# Altium schematic symbol library MCU_Module.SchLib: 52 symbols (part 1 of 3)
Pins are listed as number, name and electrical type; pins without a type are passive.

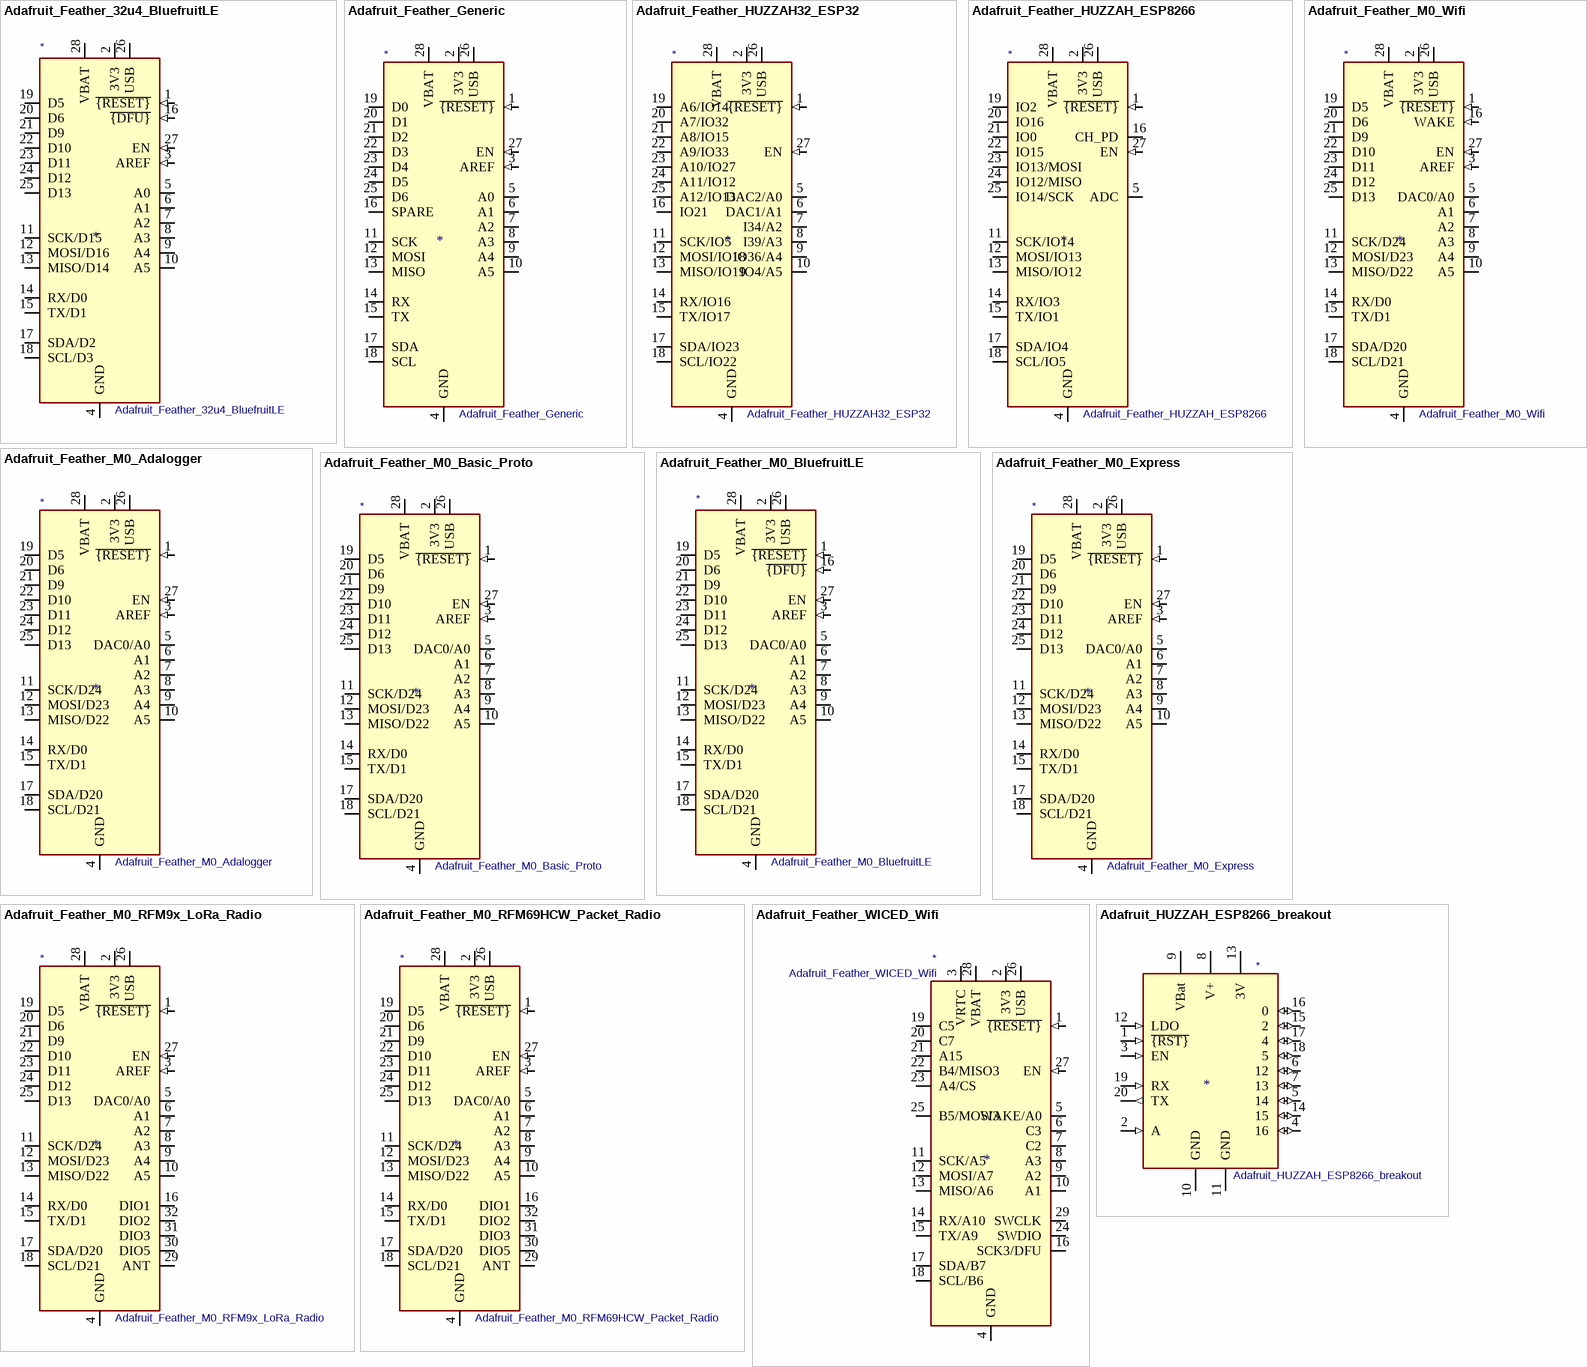
[diagram p0: symbols Adafruit_Feather_32u4_BluefruitLE to Adafruit_HUZZAH_ESP8266_breakout]

## Adafruit_Feather_32u4_BluefruitLE
designator *  value Adafruit_Feather_32u4_BluefruitLE
ki_keywords: Adafruit feather microcontroller module USB AVR ATmega32U4  Bluetooth BLE; ki_description: Microcontroller module with ATmega32u4 MCU and bluetooth; ki_fp_filters: Adafruit*Feather*; Footprint: Module:Adafruit_Feather; Supplier: https://cdn-learn.adafruit.com/downloads/pdf/adafruit-feather-32u4-bluefruit-le.pdf
footprint Adafruit_Feather
pins: 1 ~{{RESET}} (in), 2 3V3 (power), 3 AREF (in), 4 GND (power), 5 A0 (io), 6 A1 (io), 7 A2 (io), 8 A3 (io), 9 A4 (io), 10 A5 (io), 11 SCK/D15 (io), 12 MOSI/D16 (io), 13 MISO/D14 (io), 14 RX/D0 (io), 15 TX/D1 (io), 16 ~{{DFU}} (in), 17 SDA/D2 (io), 18 SCL/D3 (io), 19 D5 (io), 20 D6 (io), 21 D9 (io), 22 D10 (io), 23 D11 (io), 24 D12 (io), 25 D13 (io), 26 USB (power), 27 EN (in), 28 VBAT (power)

## Adafruit_Feather_Generic
designator *  value Adafruit_Feather_Generic
ki_keywords: Adafruit feather microcontroller module; ki_description: Microcontroller module in various flavor, generic symbol; ki_fp_filters: Adafruit*Feather*; Footprint: Module:Adafruit_Feather; Supplier: https://cdn-learn.adafruit.com/downloads/pdf/adafruit-feather.pdf
footprint Adafruit_Feather
pins: 1 ~{{RESET}} (in), 2 3V3 (power), 3 AREF (in), 4 GND (power), 5 A0 (io), 6 A1 (io), 7 A2 (io), 8 A3 (io), 9 A4 (io), 10 A5 (io), 11 SCK (io), 12 MOSI (io), 13 MISO (io), 14 RX (io), 15 TX (io), 16 SPARE (io), 17 SDA (io), 18 SCL (io), 19 D0 (io), 20 D1 (io), 21 D2 (io), 22 D3 (io), 23 D4 (io), 24 D5 (io), 25 D6 (io), 26 USB (power), 27 EN (in), 28 VBAT (power)

## Adafruit_Feather_HUZZAH32_ESP32
designator *  value Adafruit_Feather_HUZZAH32_ESP32
ki_keywords: Adafruit feather microcontroller module USB; ki_description: Microcontroller module with ESP32 MCU; ki_fp_filters: Adafruit*Feather*; Footprint: Module:Adafruit_Feather; Supplier: https://cdn-learn.adafruit.com/downloads/pdf/adafruit-huzzah32-esp32-feather.pdf
footprint Adafruit_Feather
pins: 1 ~{{RESET}} (in), 2 3V3 (power), 3 NC (in) hidden, 4 GND (power), 5 DAC2/A0 (io), 6 DAC1/A1 (io), 7 I34/A2 (io), 8 I39/A3 (io), 9 IO36/A4 (io), 10 IO4/A5 (io), 11 SCK/IO5 (io), 12 MOSI/IO18 (io), 13 MISO/IO19 (io), 14 RX/IO16 (io), 15 TX/IO17 (io), 16 IO21 (io), 17 SDA/IO23 (io), 18 SCL/IO22 (io), 19 A6/IO14 (io), 20 A7/IO32 (io), 21 A8/IO15 (io), 22 A9/IO33 (io), 23 A10/IO27 (io), 24 A11/IO12 (io), 25 A12/IO13 (io), 26 USB (power), 27 EN (in), 28 VBAT (power)

## Adafruit_Feather_HUZZAH_ESP8266
designator *  value Adafruit_Feather_HUZZAH_ESP8266
ki_keywords: Adafruit feather microcontroller module USB; ki_description: Microcontroller module with ESP8266 MCU; ki_fp_filters: Adafruit*Feather*; Footprint: Module:Adafruit_Feather; Supplier: https://cdn-learn.adafruit.com/downloads/pdf/adafruit-feather-huzzah-esp8266.pdf
footprint Adafruit_Feather
pins: 1 ~{{RESET}} (in), 2 3V3 (power), 3 NC (in) hidden, 4 GND (power), 5 ADC (io), 6 NC (in) hidden, 7 NC (in) hidden, 8 NC (in) hidden, 9 NC (in) hidden, 10 NC (in) hidden, 11 SCK/IO14 (io), 12 MOSI/IO13 (io), 13 MISO/IO12 (io), 14 RX/IO3 (io), 15 TX/IO1 (io), 16 CH_PD (io), 17 SDA/IO4 (io), 18 SCL/IO5 (io), 19 IO2 (io), 20 IO16 (io), 21 IO0 (io), 22 IO15 (io), 23 IO13/MOSI (io), 24 IO12/MISO (io), 25 IO14/SCK (io), 26 USB (power), 27 EN (in), 28 VBAT (power)

## Adafruit_Feather_M0_Adalogger
designator *  value Adafruit_Feather_M0_Adalogger
ki_keywords: Adafruit feather microcontroller module USB SD; ki_description: Microcontroller module with SAMD21 Cortex-M0 MCU and SD card reader; ki_fp_filters: Adafruit*Feather*; Footprint: Module:Adafruit_Feather; Supplier: https://cdn-learn.adafruit.com/downloads/pdf/adafruit-feather-m0-adalogger.pdf
footprint Adafruit_Feather
pins: 1 ~{{RESET}} (in), 2 3V3 (power), 3 AREF (in), 4 GND (power), 5 DAC0/A0 (io), 6 A1 (io), 7 A2 (io), 8 A3 (io), 9 A4 (io), 10 A5 (io), 11 SCK/D24 (io), 12 MOSI/D23 (io), 13 MISO/D22 (io), 14 RX/D0 (io), 15 TX/D1 (io), 16 GND hidden, 17 SDA/D20 (io), 18 SCL/D21 (io), 19 D5 (io), 20 D6 (io), 21 D9 (io), 22 D10 (io), 23 D11 (io), 24 D12 (io), 25 D13 (io), 26 USB (power), 27 EN (in), 28 VBAT (power)

## Adafruit_Feather_M0_Basic_Proto
designator *  value Adafruit_Feather_M0_Basic_Proto
ki_keywords: Adafruit feather microcontroller module USB M0 SAMD21; ki_description: Microcontroller module with SAMD21 Cortex-M0 MCU; ki_fp_filters: Adafruit*Feather*; Footprint: Module:Adafruit_Feather; Supplier: https://cdn-learn.adafruit.com/downloads/pdf/adafruit-feather-m0-basic-proto.pdf
footprint Adafruit_Feather
pins: 1 ~{{RESET}} (in), 2 3V3 (power), 3 AREF (in), 4 GND (power), 5 DAC0/A0 (io), 6 A1 (io), 7 A2 (io), 8 A3 (io), 9 A4 (io), 10 A5 (io), 11 SCK/D24 (io), 12 MOSI/D23 (io), 13 MISO/D22 (io), 14 RX/D0 (io), 15 TX/D1 (io), 16 GND hidden, 17 SDA/D20 (io), 18 SCL/D21 (io), 19 D5 (io), 20 D6 (io), 21 D9 (io), 22 D10 (io), 23 D11 (io), 24 D12 (io), 25 D13 (io), 26 USB (power), 27 EN (in), 28 VBAT (power)

## Adafruit_Feather_M0_BluefruitLE
designator *  value Adafruit_Feather_M0_BluefruitLE
ki_keywords: Adafruit feather microcontroller module USB M0 SAMD21 Bluetooth BLE; ki_description: Microcontroller module with SAMD21 Cortex-M0 MCU and bluetooth; ki_fp_filters: Adafruit*Feather*; Footprint: Module:Adafruit_Feather; Supplier: https://cdn-learn.adafruit.com/downloads/pdf/adafruit-feather-m0-bluefruit-le.pdf
footprint Adafruit_Feather
pins: 1 ~{{RESET}} (in), 2 3V3 (power), 3 AREF (in), 4 GND (power), 5 DAC0/A0 (io), 6 A1 (io), 7 A2 (io), 8 A3 (io), 9 A4 (io), 10 A5 (io), 11 SCK/D24 (io), 12 MOSI/D23 (io), 13 MISO/D22 (io), 14 RX/D0 (io), 15 TX/D1 (io), 16 ~{{DFU}} (in), 17 SDA/D20 (io), 18 SCL/D21 (io), 19 D5 (io), 20 D6 (io), 21 D9 (io), 22 D10 (io), 23 D11 (io), 24 D12 (io), 25 D13 (io), 26 USB (power), 27 EN (in), 28 VBAT (power)

## Adafruit_Feather_M0_Express
designator *  value Adafruit_Feather_M0_Express
ki_keywords: Adafruit feather microcontroller module USB SPI Flash CircuitPython; ki_description: Microcontroller module with SAMD21 Cortex-M0 MCU and SPI Flash; ki_fp_filters: Adafruit*Feather*; Footprint: Module:Adafruit_Feather; Supplier: https://cdn-learn.adafruit.com/downloads/pdf/adafruit-feather-m0-express-designed-for-circuit-python-circuitpython.pdf
footprint Adafruit_Feather
pins: 1 ~{{RESET}} (in), 2 3V3 (power), 3 AREF (in), 4 GND (power), 5 DAC0/A0 (io), 6 A1 (io), 7 A2 (io), 8 A3 (io), 9 A4 (io), 10 A5 (io), 11 SCK/D24 (io), 12 MOSI/D23 (io), 13 MISO/D22 (io), 14 RX/D0 (io), 15 TX/D1 (io), 16 GND hidden, 17 SDA/D20 (io), 18 SCL/D21 (io), 19 D5 (io), 20 D6 (io), 21 D9 (io), 22 D10 (io), 23 D11 (io), 24 D12 (io), 25 D13 (io), 26 USB (power), 27 EN (in), 28 VBAT (power)

## Adafruit_Feather_M0_RFM9x_LoRa_Radio
designator *  value Adafruit_Feather_M0_RFM9x_LoRa_Radio
ki_keywords: Adafruit feather microcontroller module USB M0 SAMD21 LoRa Radio; ki_description: Microcontroller module with SAMD21 Cortex-M0 MCU and RFM9x Radio; ki_fp_filters: Adafruit*Feather*; Footprint: Module:Adafruit_Feather_M0_RFM; Supplier: https://cdn-learn.adafruit.com/downloads/pdf/adafruit-feather-m0-radio-with-lora-radio-module.pdf
footprint Adafruit_Feather_M0_RFM
pins: 1 ~{{RESET}} (in), 2 3V3 (power), 3 AREF (in), 4 GND (power), 5 DAC0/A0 (io), 6 A1 (io), 7 A2 (io), 8 A3 (io), 9 A4 (io), 10 A5 (io), 11 SCK/D24 (io), 12 MOSI/D23 (io), 13 MISO/D22 (io), 14 RX/D0 (io), 15 TX/D1 (io), 16 DIO1 (io), 17 SDA/D20 (io), 18 SCL/D21 (io), 19 D5 (io), 20 D6 (io), 21 D9 (io), 22 D10 (io), 23 D11 (io), 24 D12 (io), 25 D13 (io), 26 USB (power), 27 EN (in), 28 VBAT (power), 29 ANT (io), 30 DIO5 (io), 31 DIO3 (io), 32 DIO2 (io)

## Adafruit_Feather_M0_RFM69HCW_Packet_Radio
designator *  value Adafruit_Feather_M0_RFM69HCW_Packet_Radio
ki_keywords: Adafruit feather microcontroller module USB M0 SAMD21 Radio; ki_description: Microcontroller module with SAMD21 Cortex-M0 MCU and RFM69HCW Radio; ki_fp_filters: Adafruit*Feather*; Footprint: Module:Adafruit_Feather_M0_RFM; Supplier: https://cdn-learn.adafruit.com/downloads/pdf/adafruit-feather-m0-radio-with-rfm69-packet-radio.pdf
footprint Adafruit_Feather_M0_RFM
pins: 1 ~{{RESET}} (in), 2 3V3 (power), 3 AREF (in), 4 GND (power), 5 DAC0/A0 (io), 6 A1 (io), 7 A2 (io), 8 A3 (io), 9 A4 (io), 10 A5 (io), 11 SCK/D24 (io), 12 MOSI/D23 (io), 13 MISO/D22 (io), 14 RX/D0 (io), 15 TX/D1 (io), 16 DIO1 (io), 17 SDA/D20 (io), 18 SCL/D21 (io), 19 D5 (io), 20 D6 (io), 21 D9 (io), 22 D10 (io), 23 D11 (io), 24 D12 (io), 25 D13 (io), 26 USB (power), 27 EN (in), 28 VBAT (power), 29 ANT (io), 30 DIO5 (io), 31 DIO3 (io), 32 DIO2 (io)

## Adafruit_Feather_M0_Wifi
designator *  value Adafruit_Feather_M0_Wifi
ki_keywords: Adafruit feather microcontroller module USB M0 SAMD21 Wifi ATWINC1500; ki_description: Microcontroller module with SAMD21 Cortex-M0 MCU and ATWINC1500 Wifi; ki_fp_filters: Adafruit*Feather*; Footprint: Module:Adafruit_Feather_M0_Wifi; Supplier: https://cdn-learn.adafruit.com/downloads/pdf/adafruit-feather-m0-wifi-atwinc1500.pdf
footprint Adafruit_Feather_M0_Wifi
pins: 1 ~{{RESET}} (in), 2 3V3 (power), 3 AREF (in), 4 GND (power), 5 DAC0/A0 (io), 6 A1 (io), 7 A2 (io), 8 A3 (io), 9 A4 (io), 10 A5 (io), 11 SCK/D24 (io), 12 MOSI/D23 (io), 13 MISO/D22 (io), 14 RX/D0 (io), 15 TX/D1 (io), 16 WAKE (in), 17 SDA/D20 (io), 18 SCL/D21 (io), 19 D5 (io), 20 D6 (io), 21 D9 (io), 22 D10 (io), 23 D11 (io), 24 D12 (io), 25 D13 (io), 26 USB (power), 27 EN (in), 28 VBAT (power)

## Adafruit_Feather_WICED_Wifi
designator *  value Adafruit_Feather_WICED_Wifi
ki_keywords: Adafruit feather microcontroller module USB M3 STM32F205 Wifi; ki_description: Microcontroller module with STM32F205 Cortex-M3 MCU and BCM43362 Wifi; ki_fp_filters: Adafruit*Feather*; Footprint: Module:Adafruit_Feather_WICED; Supplier: https://cdn-learn.adafruit.com/downloads/pdf/introducing-the-adafruit-wiced-feather-wifi.pdf
footprint Adafruit_Feather_WICED
pins: 1 ~{{RESET}} (in), 2 3V3 (power), 3 VRTC (power), 4 GND (power), 5 WAKE/A0 (io), 6 C3 (io), 7 C2 (io), 8 A3 (io), 9 A2 (io), 10 A1 (io), 11 SCK/A5 (io), 12 MOSI/A7 (io), 13 MISO/A6 (io), 14 RX/A10 (io), 15 TX/A9 (io), 16 SCK3/DFU (io), 17 SDA/B7 (io), 18 SCL/B6 (io), 19 C5 (io), 20 C7 (io), 21 A15 (io), 22 B4/MISO3 (io), 23 A4/CS (io), 24 SWDIO (io), 25 B5/MOSI3 (io), 26 USB (power), 27 EN (in), 28 VBAT (power), 29 SWCLK (io)

## Adafruit_HUZZAH_ESP8266_breakout
designator *  value Adafruit_HUZZAH_ESP8266_breakout
ki_keywords: ESP8266 WiFi microcontroller; ki_description: 32-bit microcontroller module with WiFi; ki_fp_filters: Adafruit*HUZZAH*ESP8266*breakout* Adafruit*HUZZAH*ESP8266*breakout*WithMountingHoles*; Supplier: https://www.adafruit.com/product/2471
pins: 1 ~{{RST}} (in), 2 A (in), 3 EN (in), 4 16 (io), 5 14 (io), 6 12 (io), 7 13 (io), 8 V+ (power), 9 VBat (power), 10 GND (power), 11 GND (power), 12 LDO (in), 13 3V (power), 14 15 (io), 15 2 (io), 16 0 (io), 17 4 (io), 18 5 (io), 19 RX (in), 20 TX (out)

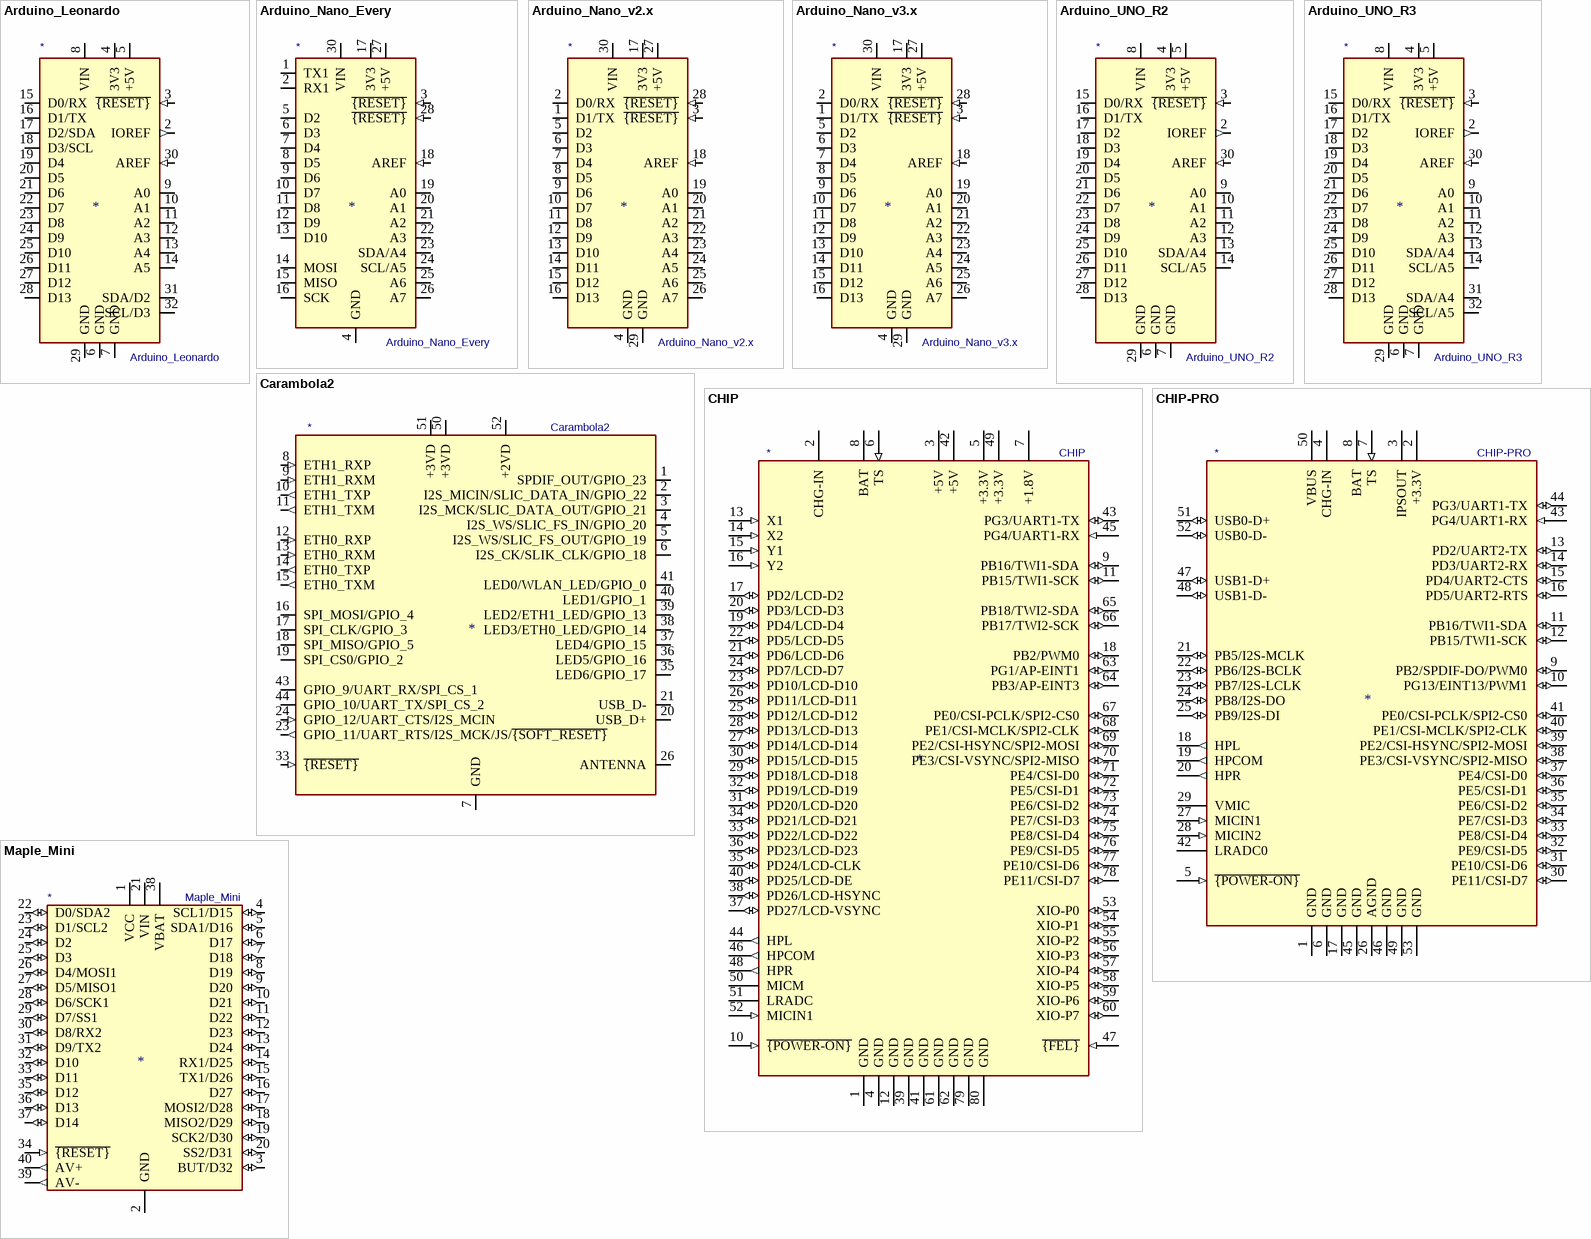
[diagram p1: symbols Arduino_Leonardo to Maple_Mini]

## Arduino_Leonardo
designator *  value Arduino_Leonardo
ki_keywords: Arduino LEONARDO Microcontroller Module Atmel AVR USB; ki_description: Arduino LEONARDO Microcontroller Module; ki_fp_filters: Arduino*UNO*R3*; Footprint: Module:Arduino_UNO_R3; Supplier: https://www.arduino.cc/en/Main/ArduinoBoardLeonardo
footprint Arduino_UNO_R3
pins: 1 NC (in) hidden, 2 IOREF (out), 3 ~{{RESET}} (in), 4 3V3 (power), 5 +5V (power), 6 GND (power), 7 GND (power), 8 VIN (power), 9 A0 (io), 10 A1 (io), 11 A2 (io), 12 A3 (io), 13 A4 (io), 14 A5 (io), 15 D0/RX (io), 16 D1/TX (io), 17 D2/SDA (io), 18 D3/SCL (io), 19 D4 (io), 20 D5 (io), 21 D6 (io), 22 D7 (io), 23 D8 (io), 24 D9 (io), 25 D10 (io), 26 D11 (io), 27 D12 (io), 28 D13 (io), 29 GND (power), 30 AREF (in), 31 SDA/D2 (io), 32 SCL/D3 (io)

## Arduino_Nano_Every
designator *  value Arduino_Nano_Every
ki_keywords: Arduino nano microcontroller module USB UPDI AATMega4809 AVR; ki_description: Arduino Nano Every; ki_fp_filters: Arduino*Nano*; Footprint: Module:Arduino_Nano; Supplier: https://content.arduino.cc/assets/NANOEveryV3.0_sch.pdf
footprint Arduino_Nano
pins: 1 TX1 (io), 2 RX1 (io), 3 ~{{RESET}} (in), 4 GND (power), 5 D2 (io), 6 D3 (io), 7 D4 (io), 8 D5 (io), 9 D6 (io), 10 D7 (io), 11 D8 (io), 12 D9 (io), 13 D10 (io), 14 MOSI (io), 15 MISO (io), 16 SCK (io), 17 3V3 (power), 18 AREF (in), 19 A0 (io), 20 A1 (io), 21 A2 (io), 22 A3 (io), 23 SDA/A4 (io), 24 SCL/A5 (io), 25 A6 (io), 26 A7 (io), 27 +5V (power), 28 ~{{RESET}} (in), 29 GND hidden, 30 VIN (power)

## Arduino_Nano_v2.x
designator *  value Arduino_Nano_v2.x
ki_keywords: Arduino nano microcontroller module USB; ki_description: Arduino Nano v2.x; ki_fp_filters: Arduino*Nano*; Footprint: Module:Arduino_Nano; Supplier: https://www.arduino.cc/en/uploads/Main/ArduinoNanoManual23.pdf
footprint Arduino_Nano
pins: 1 D1/TX (io), 2 D0/RX (io), 3 ~{{RESET}} (in), 4 GND (power), 5 D2 (io), 6 D3 (io), 7 D4 (io), 8 D5 (io), 9 D6 (io), 10 D7 (io), 11 D8 (io), 12 D9 (io), 13 D10 (io), 14 D11 (io), 15 D12 (io), 16 D13 (io), 17 3V3 (power), 18 AREF (in), 19 A0 (io), 20 A1 (io), 21 A2 (io), 22 A3 (io), 23 A4 (io), 24 A5 (io), 25 A6 (io), 26 A7 (io), 27 +5V (power), 28 ~{{RESET}} (in), 29 GND (power), 30 VIN (power)

## Arduino_Nano_v3.x
designator *  value Arduino_Nano_v3.x
ki_keywords: Arduino nano microcontroller module USB; ki_description: Arduino Nano v3.x; ki_fp_filters: Arduino*Nano*; Footprint: Module:Arduino_Nano; Supplier: http://www.mouser.com/pdfdocs/Gravitech_Arduino_Nano3_0.pdf
footprint Arduino_Nano
pins: 1 D1/TX (io), 2 D0/RX (io), 3 ~{{RESET}} (in), 4 GND (power), 5 D2 (io), 6 D3 (io), 7 D4 (io), 8 D5 (io), 9 D6 (io), 10 D7 (io), 11 D8 (io), 12 D9 (io), 13 D10 (io), 14 D11 (io), 15 D12 (io), 16 D13 (io), 17 3V3 (power), 18 AREF (in), 19 A0 (io), 20 A1 (io), 21 A2 (io), 22 A3 (io), 23 A4 (io), 24 A5 (io), 25 A6 (io), 26 A7 (io), 27 +5V (power), 28 ~{{RESET}} (in), 29 GND (power), 30 VIN (power)

## Arduino_UNO_R2
designator *  value Arduino_UNO_R2
ki_keywords: Arduino UNO R3 Microcontroller Module Atmel AVR USB; ki_description: Arduino UNO Microcontroller Module, release 2; ki_fp_filters: Arduino*UNO*R2*; Footprint: Module:Arduino_UNO_R2; Supplier: https://www.arduino.cc/en/Main/arduinoBoardUno
footprint Arduino_UNO_R2
pins: 1 NC (in) hidden, 2 IOREF (out), 3 ~{{RESET}} (in), 4 3V3 (power), 5 +5V (power), 6 GND (power), 7 GND (power), 8 VIN (power), 9 A0 (io), 10 A1 (io), 11 A2 (io), 12 A3 (io), 13 SDA/A4 (io), 14 SCL/A5 (io), 15 D0/RX (io), 16 D1/TX (io), 17 D2 (io), 18 D3 (io), 19 D4 (io), 20 D5 (io), 21 D6 (io), 22 D7 (io), 23 D8 (io), 24 D9 (io), 25 D10 (io), 26 D11 (io), 27 D12 (io), 28 D13 (io), 29 GND (power), 30 AREF (in)

## Arduino_UNO_R3
designator *  value Arduino_UNO_R3
ki_keywords: Arduino UNO R3 Microcontroller Module Atmel AVR USB; ki_description: Arduino UNO Microcontroller Module, release 3; ki_fp_filters: Arduino*UNO*R3*; Footprint: Module:Arduino_UNO_R3; Supplier: https://www.arduino.cc/en/Main/arduinoBoardUno
footprint Arduino_UNO_R3
pins: 1 NC (in) hidden, 2 IOREF (out), 3 ~{{RESET}} (in), 4 3V3 (power), 5 +5V (power), 6 GND (power), 7 GND (power), 8 VIN (power), 9 A0 (io), 10 A1 (io), 11 A2 (io), 12 A3 (io), 13 SDA/A4 (io), 14 SCL/A5 (io), 15 D0/RX (io), 16 D1/TX (io), 17 D2 (io), 18 D3 (io), 19 D4 (io), 20 D5 (io), 21 D6 (io), 22 D7 (io), 23 D8 (io), 24 D9 (io), 25 D10 (io), 26 D11 (io), 27 D12 (io), 28 D13 (io), 29 GND (power), 30 AREF (in), 31 SDA/A4 (io), 32 SCL/A5 (io)

## Carambola2
designator *  value Carambola2
ki_keywords: carambola, 8devices, openwrt, board, wlan; ki_description: Qualcomm AR9331, 16MB Flash, 64MB RAM, USB, Serial, Ethernet, GPIO, OpenWRT, industrial SoM computer; ki_fp_filters: Carambola2*; Footprint: Module:Carambola2; Supplier: https://www.8devices.com/media/products/carambola2/downloads/carambola2-datasheet.pdf
footprint Carambola2
pins: 1 SPDIF_OUT/GPIO_23 (io), 2 I2S_MICIN/SLIC_DATA_IN/GPIO_22 (io), 3 I2S_MCK/SLIC_DATA_OUT/GPIO_21 (io), 4 I2S_WS/SLIC_FS_IN/GPIO_20 (io), 5 I2S_WS/SLIC_FS_OUT/GPIO_19 (io), 6 I2S_CK/SLIK_CLK/GPIO_18 (io), 7 GND (power), 8 ETH1_RXP (in), 9 ETH1_RXM (in), 10 ETH1_TXP (out), 11 ETH1_TXM (out), 12 ETH0_RXP (in), 13 ETH0_RXM (in), 14 ETH0_TXP (out), 15 ETH0_TXM (out), 16 SPI_MOSI/GPIO_4 (io), 17 SPI_CLK/GPIO_3 (io), 18 SPI_MISO/GPIO_5 (io), 19 SPI_CS0/GPIO_2 (io), 20 USB_D+ (io), 21 USB_D- (io), 22 GND hidden, 23 GPIO_11/UART_RTS/I2S_MCK/JS/~{{SOFT_RESET}} (out), 24 GPIO_12/UART_CTS/I2S_MCIN (in), 25 GND hidden, 26 ANTENNA, 27 GND hidden, 28 GND hidden, 29 GND hidden, 30 GND hidden, 31 GND hidden, 32 GND hidden, 33 ~{{RESET}} (in), 34 GND hidden, 35 LED6/GPIO_17 (io), 36 LED5/GPIO_16 (io), 37 LED4/GPIO_15 (io), 38 LED3/ETH0_LED/GPIO_14 (io), 39 LED2/ETH1_LED/GPIO_13 (io), 40 LED1/GPIO_1 (io), 41 LED0/WLAN_LED/GPIO_0 (io), 42 GND hidden, 43 GPIO_9/UART_RX/SPI_CS_1 (io), 44 GPIO_10/UART_TX/SPI_CS_2 (io), 45 GND hidden, 46 GND hidden, 47 GND hidden, 48 GND hidden, 49 GND hidden, 50 +3VD (power), 51 +3VD (power), 52 +2VD (power)

## CHIP
designator *  value CHIP
ki_keywords: nextthingco chip module; ki_description: NextThingCo C.H.I.P. Module; ki_fp_filters: MODULE*NEXTTHINGCO*CHIP*; Footprint: Module:MODULE_NEXTTHINGCO_CHIP; Supplier: https://github.com/NextThingCo/CHIP-Hardware/tree/master/CHIP%5Bv1_0%5D
footprint MODULE_NEXTTHINGCO_CHIP
pins: 1 GND (power), 2 CHG-IN (power), 3 +5V (power), 4 GND (power), 5 +3.3V (power), 6 TS (in), 7 +1.8V (power), 8 BAT (power), 9 PB16/TWI1-SDA (io), 10 ~{{POWER-ON}} (in), 11 PB15/TWI1-SCK (io), 12 GND (power), 13 X1 (in), 14 X2 (in), 15 Y1 (in), 16 Y2 (in), 17 PD2/LCD-D2 (io), 18 PB2/PWM0 (io), 19 PD4/LCD-D4 (io), 20 PD3/LCD-D3 (io), 21 PD6/LCD-D6 (io), 22 PD5/LCD-D5 (io), 23 PD10/LCD-D10 (io), 24 PD7/LCD-D7 (io), 25 PD12/LCD-D12 (io), 26 PD11/LCD-D11 (io), 27 PD14/LCD-D14 (io), 28 PD13/LCD-D13 (io), 29 PD18/LCD-D18 (io), 30 PD15/LCD-D15 (io), 31 PD20/LCD-D20 (io), 32 PD19/LCD-D19 (io), 33 PD22/LCD-D22 (io), 34 PD21/LCD-D21 (io), 35 PD24/LCD-CLK (io), 36 PD23/LCD-D23 (io), 37 PD27/LCD-VSYNC (io), 38 PD26/LCD-HSYNC (io), 39 GND (power), 40 PD25/LCD-DE (io), 41 GND (power), 42 +5V (power), 43 PG3/UART1-TX (io), 44 HPL (out), 45 PG4/UART1-RX (in), 46 HPCOM (out), 47 ~{{FEL}} (in), 48 HPR (out), 49 +3.3V (power), 50 MICM (power), 51 LRADC (power), 52 MICIN1 (in), 53 XIO-P0 (io), 54 XIO-P1 (io), 55 XIO-P2 (io), 56 XIO-P3 (io), 57 XIO-P4 (io), 58 XIO-P5 (io), 59 XIO-P6 (io), 60 XIO-P7 (io), 61 GND (power), 62 GND (power), 63 PG1/AP-EINT1 (io), 64 PB3/AP-EINT3 (io), 65 PB18/TWI2-SDA (io), 66 PB17/TWI2-SCK (io), 67 PE0/CSI-PCLK/SPI2-CS0 (io), 68 PE1/CSI-MCLK/SPI2-CLK (io), 69 PE2/CSI-HSYNC/SPI2-MOSI (io), 70 PE3/CSI-VSYNC/SPI2-MISO (io), 71 PE4/CSI-D0 (io), 72 PE5/CSI-D1 (io), 73 PE6/CSI-D2 (io), 74 PE7/CSI-D3 (io), 75 PE8/CSI-D4 (io), 76 PE9/CSI-D5 (io), 77 PE10/CSI-D6 (io), 78 PE11/CSI-D7 (io), 79 GND (power), 80 GND (power)

## CHIP-PRO
designator *  value CHIP-PRO
ki_keywords: nextthingco chip pro module; ki_description: NextThingCo C.H.I.P. Pro Module; ki_fp_filters: MODULE*NEXTTHINGCO*CHIPPRO*; Footprint: Module:MODULE_NEXTTHINGCO_CHIPPRO; Supplier: https://github.com/NextThingCo/CHIP_Pro-Hardware/blob/master/Datasheets/CHIP_PRO_Datasheet_v1.0.pdf
footprint MODULE_NEXTTHINGCO_CHIPPRO
pins: 1 GND (power), 2 +3.3V (power), 3 IPSOUT (power), 4 CHG-IN (power), 5 ~{{POWER-ON}} (in), 6 GND (power), 7 TS (in), 8 BAT (power), 9 PB2/SPDIF-DO/PWM0 (io), 10 PG13/EINT13/PWM1 (io), 11 PB16/TWI1-SDA (io), 12 PB15/TWI1-SCK (io), 13 PD2/UART2-TX (io), 14 PD3/UART2-RX (io), 15 PD4/UART2-CTS (io), 16 PD5/UART2-RTS (io), 17 GND (power), 18 HPL (out), 19 HPCOM (out), 20 HPR (out), 21 PB5/I2S-MCLK (io), 22 PB6/I2S-BCLK (io), 23 PB7/I2S-LCLK (io), 24 PB8/I2S-DO (io), 25 PB9/I2S-DI (io), 26 AGND (power), 27 MICIN1 (in), 28 MICIN2 (in), 29 VMIC, 30 PE11/CSI-D7 (io), 31 PE10/CSI-D6 (io), 32 PE9/CSI-D5 (io), 33 PE8/CSI-D4 (io), 34 PE7/CSI-D3 (io), 35 PE6/CSI-D2 (io), 36 PE5/CSI-D1 (io), 37 PE4/CSI-D0 (io), 38 PE3/CSI-VSYNC/SPI2-MISO (io), 39 PE2/CSI-HSYNC/SPI2-MOSI (io), 40 PE1/CSI-MCLK/SPI2-CLK (io), 41 PE0/CSI-PCLK/SPI2-CS0 (io), 42 LRADC0 (power), 43 PG4/UART1-RX (in), 44 PG3/UART1-TX (io), 45 GND (power), 46 GND (power), 47 USB1-D+ (io), 48 USB1-D- (io), 49 GND (power), 50 VBUS (power), 51 USB0-D+ (io), 52 USB0-D- (io), 53 GND (power)

## Maple_Mini
designator *  value Maple_Mini
ki_keywords: Maple Mini Microcontroller Module LeafLabs STM32 STM32F103; ki_description: Maple Mini Microcontroller Module by LeafLabs; ki_fp_filters: Maple*Mini*; Footprint: Module:Maple_Mini; Supplier: http://docs.leaflabs.com/static.leaflabs.com/pub/leaflabs/maple-docs/0.0.12/hardware/maple-mini.html
footprint Maple_Mini
pins: 1 VCC (power), 2 GND (power), 3 BUT/D32 (io), 4 SCL1/D15 (io), 5 SDA1/D16 (io), 6 D17 (io), 7 D18 (io), 8 D19 (io), 9 D20 (io), 10 D21 (io), 11 D22 (io), 12 D23 (io), 13 D24 (io), 14 RX1/D25 (io), 15 TX1/D26 (io), 16 D27 (io), 17 MOSI2/D28 (io), 18 MISO2/D29 (io), 19 SCK2/D30 (io), 20 SS2/D31 (io), 21 VIN (power), 22 D0/SDA2 (io), 23 D1/SCL2 (io), 24 D2 (io), 25 D3 (io), 26 D4/MOSI1 (io), 27 D5/MISO1 (io), 28 D6/SCK1 (io), 29 D7/SS1 (io), 30 D8/RX2 (io), 31 D9/TX2 (io), 32 D10 (io), 33 D11 (io), 34 ~{{RESET}} (in), 35 D12 (io), 36 D13 (io), 37 D14 (io), 38 VBAT (power), 39 AV- (out), 40 AV+ (out)

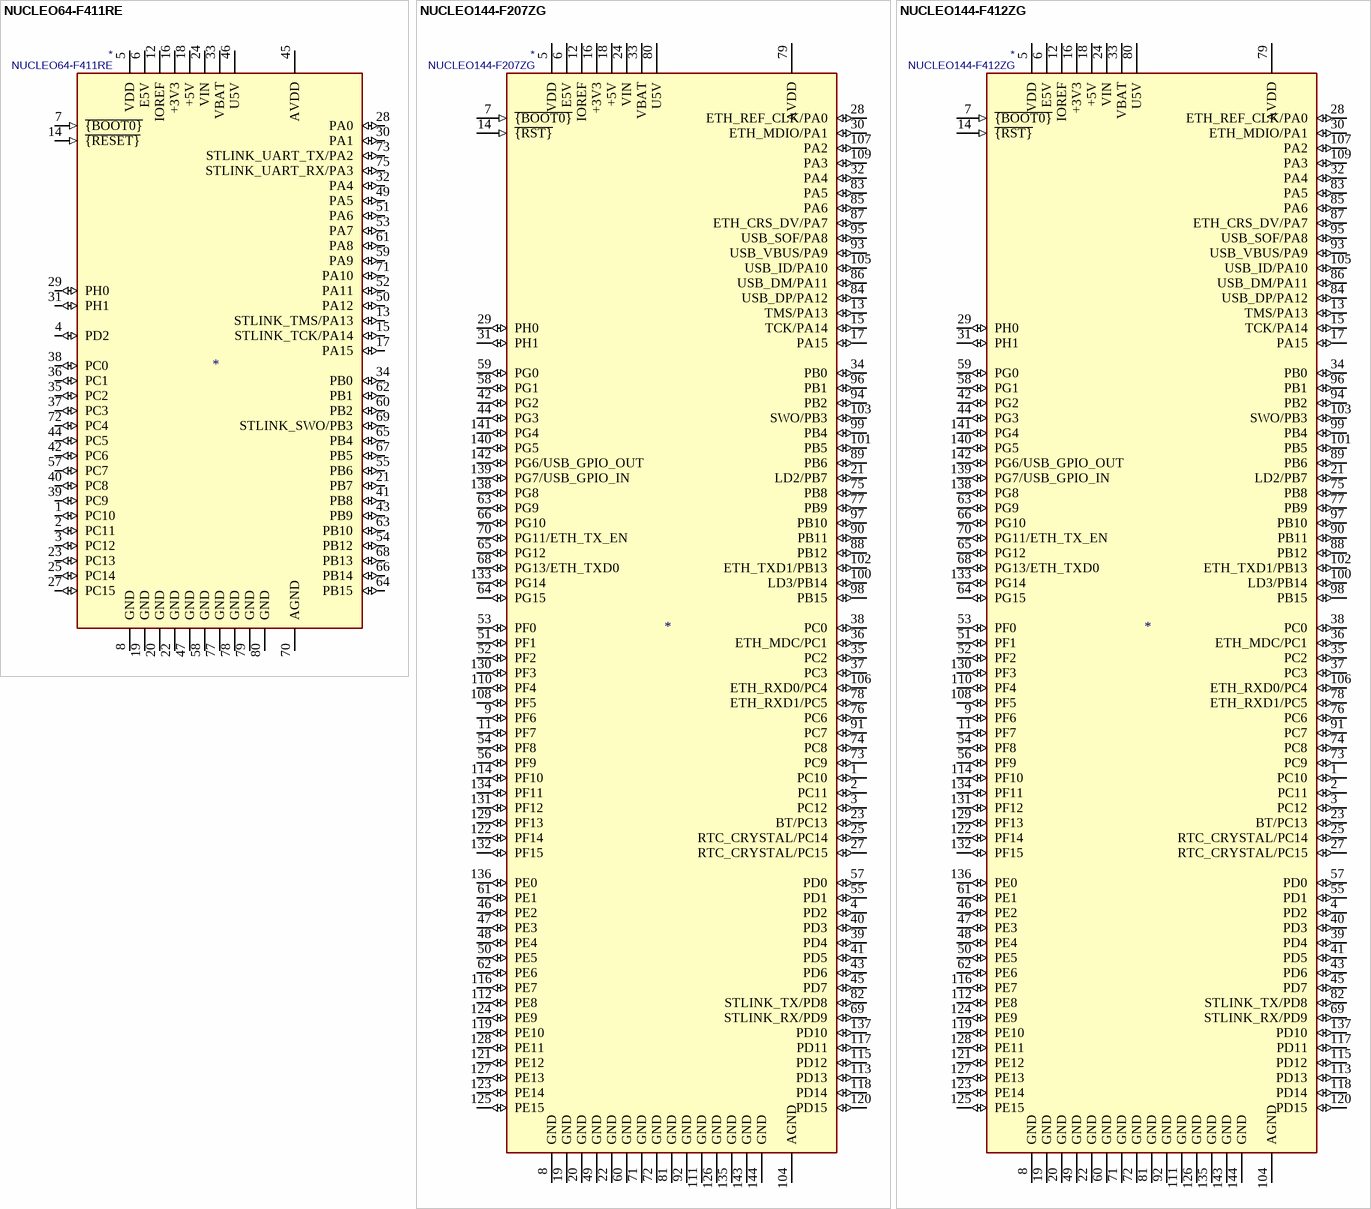
[diagram p2: symbols NUCLEO64-F411RE to NUCLEO144-F412ZG]

## NUCLEO64-F411RE
designator *  value NUCLEO64-F411RE
ki_keywords: STM32 Nucleo ST; ki_description: Nucleo 64 Development Board with STM32F411RET6 MCU, 128kB RAM, 512KB FLASH; ki_fp_filters: ST*Morpho*Connector*144*STLink*; Footprint: Module:ST_Morpho_Connector_144_STLink; Supplier: http://www.st.com/st-web-ui/static/active/en/resource/technical/document/data_brief/DM00105918.pdf
footprint ST_Morpho_Connector_144_STLink
pins: 1 PC10 (io), 2 PC11 (io), 3 PC12 (io), 4 PD2 (io), 5 VDD (power), 6 E5V (power), 7 ~{{BOOT0}} (in), 8 GND (power), 9 NC (in) hidden, 10 NC (in) hidden, 11 NC (in) hidden, 12 IOREF (power), 13 STLINK_TMS/PA13 (io), 14 ~{{RESET}} (in), 15 STLINK_TCK/PA14 (io), 16 +3V3 (power), 17 PA15 (io), 18 +5V (power), 19 GND (power), 20 GND (power), 21 PB7 (io), 22 GND (power), 23 PC13 (io), 24 VIN (power), 25 PC14 (io), 26 NC (in) hidden, 27 PC15 (io), 28 PA0 (io), 29 PH0 (io), 30 PA1 (io), 31 PH1 (io), 32 PA4 (io), 33 VBAT (power), 34 PB0 (io), 35 PC2 (io), 36 PC1 (io), 37 PC3 (io), 38 PC0 (io), 39 PC9 (io), 40 PC8 (io), 41 PB8 (io), 42 PC6 (io), 43 PB9 (io), 44 PC5 (io), 45 AVDD (power), 46 U5V (power), 47 GND (power), 48 NC (in) hidden, 49 PA5 (io), 50 PA12 (io), 51 PA6 (io), 52 PA11 (io), 53 PA7 (io), 54 PB12 (io), 55 PB6 (io), 56 NC (in) hidden, 57 PC7 (io), 58 GND (power), 59 PA9 (io), 60 PB2 (io), 61 PA8 (io), 62 PB1 (io), 63 PB10 (io), 64 PB15 (io), 65 PB4 (io), 66 PB14 (io), 67 PB5 (io), 68 PB13 (io), 69 STLINK_SWO/PB3 (io), 70 AGND (power), 71 PA10 (io), 72 PC4 (io), 73 STLINK_UART_TX/PA2 (io), 74 NC (in) hidden, 75 STLINK_UART_RX/PA3 (io), 76 NC (in) hidden, 77 GND (power), 78 GND (power), 79 GND (power), 80 GND (power)

## NUCLEO144-F207ZG
designator *  value NUCLEO144-F207ZG
ki_keywords: STM32 Nucleo ST; ki_description: Nucleo 144 Development Board with STM32F207ZGT6 MCU, 128+4Kb RAM, 1Mb FLASH; ki_fp_filters: ST*Morpho*Connector*144*STLink*; Footprint: Module:ST_Morpho_Connector_144_STLink; Supplier: https://www.st.com/resource/en/user_manual/dm00244518-stm32-nucleo144-boards-stmicroelectronics.pdf
footprint ST_Morpho_Connector_144_STLink
pins: 1 PC10 (io), 2 PC11 (io), 3 PC12 (io), 4 PD2 (io), 5 VDD (power), 6 E5V (power), 7 ~{{BOOT0}} (in), 8 GND (power), 9 PF6 (io), 10 NC (in) hidden, 11 PF7 (io), 12 IOREF (power), 13 TMS/PA13 (io), 14 ~{{RST}} (in), 15 TCK/PA14 (io), 16 +3V3 (power), 17 PA15 (io), 18 +5V (power), 19 GND (power), 20 GND (power), 21 LD2/PB7 (io), 22 GND (power), 23 BT/PC13 (io), 24 VIN (power), 25 RTC_CRYSTAL/PC14 (io), 26 NC (in) hidden, 27 RTC_CRYSTAL/PC15 (io), 28 ETH_REF_CLK/PA0 (io), 29 PH0 (io), 30 ETH_MDIO/PA1 (io), 31 PH1 (io), 32 PA4 (io), 33 VBAT (power), 34 PB0 (io), 35 PC2 (io), 36 ETH_MDC/PC1 (io), 37 PC3 (io), 38 PC0 (io), 39 PD4 (io), 40 PD3 (io), 41 PD5 (io), 42 PG2 (io), 43 PD6 (io), 44 PG3 (io), 45 PD7 (io), 46 PE2 (io), 47 PE3 (io), 48 PE4 (io), 49 GND (power), 50 PE5 (io), 51 PF1 (io), 52 PF2 (io), 53 PF0 (io), 54 PF8 (io), 55 PD1 (io), 56 PF9 (io), 57 PD0 (io), 58 PG1 (io), 59 PG0 (io), 60 GND (power), 61 PE1 (io), 62 PE6 (io), 63 PG9 (io), 64 PG15 (io), 65 PG12 (io), 66 PG10 (io), 67 NC (in) hidden, 68 PG13/ETH_TXD0 (io), 69 STLINK_RX/PD9 (io), 70 PG11/ETH_TX_EN (io), 71 GND (power), 72 GND (power), 73 PC9 (io), 74 PC8 (io), 75 PB8 (io), 76 PC6 (io), 77 PB9 (io), 78 ETH_RXD1/PC5 (io), 79 AVDD (power), 80 U5V (power), 81 GND (power), 82 STLINK_TX/PD8 (io), 83 PA5 (io), 84 USB_DP/PA12 (io), 85 PA6 (io), 86 USB_DM/PA11 (io), 87 ETH_CRS_DV/PA7 (io), 88 PB12 (io), 89 PB6 (io), 90 PB11 (io), 91 PC7 (io), 92 GND (power), 93 USB_VBUS/PA9 (io), 94 PB2 (io), 95 USB_SOF/PA8 (io), 96 PB1 (io), 97 PB10 (io), 98 PB15 (io), 99 PB4 (io), 100 LD3/PB14 (io), 101 PB5 (io), 102 ETH_TXD1/PB13 (io), 103 SWO/PB3 (io), 104 AGND (power), 105 USB_ID/PA10 (io), 106 ETH_RXD0/PC4 (io), 107 PA2 (io), 108 PF5 (io), 109 PA3 (io), 110 PF4 (io), 111 GND (power), 112 PE8 (io), 113 PD13 (io), 114 PF10 (io), 115 PD12 (io), 116 PE7 (io), 117 PD11 (io), 118 PD14 (io), 119 PE10 (io), 120 PD15 (io), 121 PE12 (io), 122 PF14 (io), 123 PE14 (io), 124 PE9 (io), 125 PE15 (io), 126 GND (power), 127 PE13 (io), 128 PE11 (io), 129 PF13 (io), 130 PF3 (io), 131 PF12 (io), 132 PF15 (io), 133 PG14 (io), 134 PF11 (io), 135 GND (power), 136 PE0 (io), 137 PD10 (io), 138 PG8 (io), 139 PG7/USB_GPIO_IN (io), 140 PG5 (io), 141 PG4 (io), 142 PG6/USB_GPIO_OUT (io), 143 GND (power), 144 GND (power)

## NUCLEO144-F412ZG
designator *  value NUCLEO144-F412ZG
ki_keywords: STM32 Nucleo ST; ki_description: Nucleo 144 Development Board with STM32F412ZGT6 MCU, 256kB RAM, 1Mb FLASH; ki_fp_filters: ST*Morpho*Connector*144*STLink*; Footprint: Module:ST_Morpho_Connector_144_STLink; Supplier: https://www.st.com/resource/en/user_manual/dm00244518-stm32-nucleo144-boards-stmicroelectronics.pdf
footprint ST_Morpho_Connector_144_STLink
pins: 1 PC10 (io), 2 PC11 (io), 3 PC12 (io), 4 PD2 (io), 5 VDD (power), 6 E5V (power), 7 ~{{BOOT0}} (in), 8 GND (power), 9 PF6 (io), 10 NC (in) hidden, 11 PF7 (io), 12 IOREF (power), 13 TMS/PA13 (io), 14 ~{{RST}} (in), 15 TCK/PA14 (io), 16 +3V3 (power), 17 PA15 (io), 18 +5V (power), 19 GND (power), 20 GND (power), 21 LD2/PB7 (io), 22 GND (power), 23 BT/PC13 (io), 24 VIN (power), 25 RTC_CRYSTAL/PC14 (io), 26 NC (in) hidden, 27 RTC_CRYSTAL/PC15 (io), 28 ETH_REF_CLK/PA0 (io), 29 PH0 (io), 30 ETH_MDIO/PA1 (io), 31 PH1 (io), 32 PA4 (io), 33 VBAT (power), 34 PB0 (io), 35 PC2 (io), 36 ETH_MDC/PC1 (io), 37 PC3 (io), 38 PC0 (io), 39 PD4 (io), 40 PD3 (io), 41 PD5 (io), 42 PG2 (io), 43 PD6 (io), 44 PG3 (io), 45 PD7 (io), 46 PE2 (io), 47 PE3 (io), 48 PE4 (io), 49 GND (power), 50 PE5 (io), 51 PF1 (io), 52 PF2 (io), 53 PF0 (io), 54 PF8 (io), 55 PD1 (io), 56 PF9 (io), 57 PD0 (io), 58 PG1 (io), 59 PG0 (io), 60 GND (power), 61 PE1 (io), 62 PE6 (io), 63 PG9 (io), 64 PG15 (io), 65 PG12 (io), 66 PG10 (io), 67 NC (in) hidden, 68 PG13/ETH_TXD0 (io), 69 STLINK_RX/PD9 (io), 70 PG11/ETH_TX_EN (io), 71 GND (power), 72 GND (power), 73 PC9 (io), 74 PC8 (io), 75 PB8 (io), 76 PC6 (io), 77 PB9 (io), 78 ETH_RXD1/PC5 (io), 79 AVDD (power), 80 U5V (power), 81 GND (power), 82 STLINK_TX/PD8 (io), 83 PA5 (io), 84 USB_DP/PA12 (io), 85 PA6 (io), 86 USB_DM/PA11 (io), 87 ETH_CRS_DV/PA7 (io), 88 PB12 (io), 89 PB6 (io), 90 PB11 (io), 91 PC7 (io), 92 GND (power), 93 USB_VBUS/PA9 (io), 94 PB2 (io), 95 USB_SOF/PA8 (io), 96 PB1 (io), 97 PB10 (io), 98 PB15 (io), 99 PB4 (io), 100 LD3/PB14 (io), 101 PB5 (io), 102 ETH_TXD1/PB13 (io), 103 SWO/PB3 (io), 104 AGND (power), 105 USB_ID/PA10 (io), 106 ETH_RXD0/PC4 (io), 107 PA2 (io), 108 PF5 (io), 109 PA3 (io), 110 PF4 (io), 111 GND (power), 112 PE8 (io), 113 PD13 (io), 114 PF10 (io), 115 PD12 (io), 116 PE7 (io), 117 PD11 (io), 118 PD14 (io), 119 PE10 (io), 120 PD15 (io), 121 PE12 (io), 122 PF14 (io), 123 PE14 (io), 124 PE9 (io), 125 PE15 (io), 126 GND (power), 127 PE13 (io), 128 PE11 (io), 129 PF13 (io), 130 PF3 (io), 131 PF12 (io), 132 PF15 (io), 133 PG14 (io), 134 PF11 (io), 135 GND (power), 136 PE0 (io), 137 PD10 (io), 138 PG8 (io), 139 PG7/USB_GPIO_IN (io), 140 PG5 (io), 141 PG4 (io), 142 PG6/USB_GPIO_OUT (io), 143 GND (power), 144 GND (power)

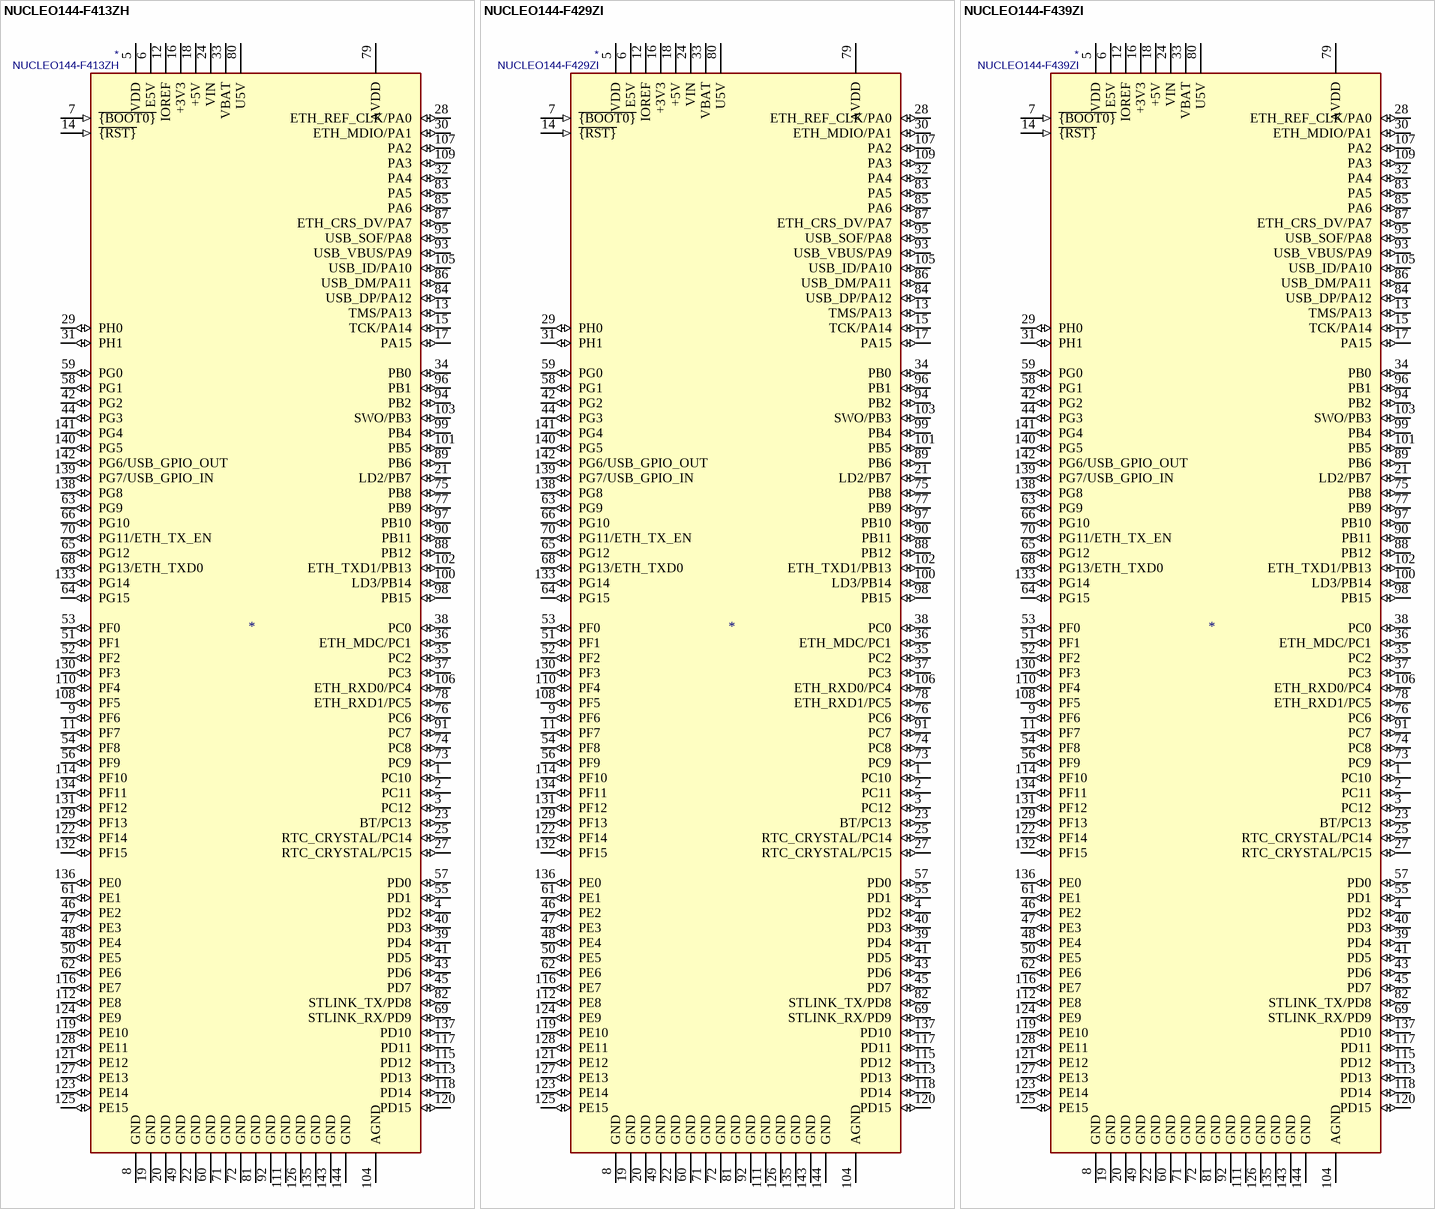
[diagram p3: symbols NUCLEO144-F413ZH to NUCLEO144-F439ZI]

## NUCLEO144-F413ZH
designator *  value NUCLEO144-F413ZH
ki_keywords: STM32 Nucleo ST; ki_description: Nucleo 144 Development Board with STM32F413ZHT6 MCU, 320kB RAM, 1.5Mb FLASH; ki_fp_filters: ST*Morpho*Connector*144*STLink*; Footprint: Module:ST_Morpho_Connector_144_STLink; Supplier: https://www.st.com/resource/en/user_manual/dm00244518-stm32-nucleo144-boards-stmicroelectronics.pdf
footprint ST_Morpho_Connector_144_STLink
pins: 1 PC10 (io), 2 PC11 (io), 3 PC12 (io), 4 PD2 (io), 5 VDD (power), 6 E5V (power), 7 ~{{BOOT0}} (in), 8 GND (power), 9 PF6 (io), 10 NC (in) hidden, 11 PF7 (io), 12 IOREF (power), 13 TMS/PA13 (io), 14 ~{{RST}} (in), 15 TCK/PA14 (io), 16 +3V3 (power), 17 PA15 (io), 18 +5V (power), 19 GND (power), 20 GND (power), 21 LD2/PB7 (io), 22 GND (power), 23 BT/PC13 (io), 24 VIN (power), 25 RTC_CRYSTAL/PC14 (io), 26 NC (in) hidden, 27 RTC_CRYSTAL/PC15 (io), 28 ETH_REF_CLK/PA0 (io), 29 PH0 (io), 30 ETH_MDIO/PA1 (io), 31 PH1 (io), 32 PA4 (io), 33 VBAT (power), 34 PB0 (io), 35 PC2 (io), 36 ETH_MDC/PC1 (io), 37 PC3 (io), 38 PC0 (io), 39 PD4 (io), 40 PD3 (io), 41 PD5 (io), 42 PG2 (io), 43 PD6 (io), 44 PG3 (io), 45 PD7 (io), 46 PE2 (io), 47 PE3 (io), 48 PE4 (io), 49 GND (power), 50 PE5 (io), 51 PF1 (io), 52 PF2 (io), 53 PF0 (io), 54 PF8 (io), 55 PD1 (io), 56 PF9 (io), 57 PD0 (io), 58 PG1 (io), 59 PG0 (io), 60 GND (power), 61 PE1 (io), 62 PE6 (io), 63 PG9 (io), 64 PG15 (io), 65 PG12 (io), 66 PG10 (io), 67 NC (in) hidden, 68 PG13/ETH_TXD0 (io), 69 STLINK_RX/PD9 (io), 70 PG11/ETH_TX_EN (io), 71 GND (power), 72 GND (power), 73 PC9 (io), 74 PC8 (io), 75 PB8 (io), 76 PC6 (io), 77 PB9 (io), 78 ETH_RXD1/PC5 (io), 79 AVDD (power), 80 U5V (power), 81 GND (power), 82 STLINK_TX/PD8 (io), 83 PA5 (io), 84 USB_DP/PA12 (io), 85 PA6 (io), 86 USB_DM/PA11 (io), 87 ETH_CRS_DV/PA7 (io), 88 PB12 (io), 89 PB6 (io), 90 PB11 (io), 91 PC7 (io), 92 GND (power), 93 USB_VBUS/PA9 (io), 94 PB2 (io), 95 USB_SOF/PA8 (io), 96 PB1 (io), 97 PB10 (io), 98 PB15 (io), 99 PB4 (io), 100 LD3/PB14 (io), 101 PB5 (io), 102 ETH_TXD1/PB13 (io), 103 SWO/PB3 (io), 104 AGND (power), 105 USB_ID/PA10 (io), 106 ETH_RXD0/PC4 (io), 107 PA2 (io), 108 PF5 (io), 109 PA3 (io), 110 PF4 (io), 111 GND (power), 112 PE8 (io), 113 PD13 (io), 114 PF10 (io), 115 PD12 (io), 116 PE7 (io), 117 PD11 (io), 118 PD14 (io), 119 PE10 (io), 120 PD15 (io), 121 PE12 (io), 122 PF14 (io), 123 PE14 (io), 124 PE9 (io), 125 PE15 (io), 126 GND (power), 127 PE13 (io), 128 PE11 (io), 129 PF13 (io), 130 PF3 (io), 131 PF12 (io), 132 PF15 (io), 133 PG14 (io), 134 PF11 (io), 135 GND (power), 136 PE0 (io), 137 PD10 (io), 138 PG8 (io), 139 PG7/USB_GPIO_IN (io), 140 PG5 (io), 141 PG4 (io), 142 PG6/USB_GPIO_OUT (io), 143 GND (power), 144 GND (power)

## NUCLEO144-F429ZI
designator *  value NUCLEO144-F429ZI
ki_keywords: STM32 Nucleo ST; ki_description: Nucleo 144 Development Board with STM32F429ZIT6 MCU, 256kB RAM, 1Mb FLASH; ki_fp_filters: ST*Morpho*Connector*144*STLink*; Footprint: Module:ST_Morpho_Connector_144_STLink; Supplier: http://www.st.com/content/ccc/resource/technical/document/data_brief/group0/7b/df/1d/e9/64/55/43/8d/DM00247910/files/DM00247910.pdf/jcr:content/translations/en.DM00247910.pdf
footprint ST_Morpho_Connector_144_STLink
pins: 1 PC10 (io), 2 PC11 (io), 3 PC12 (io), 4 PD2 (io), 5 VDD (power), 6 E5V (power), 7 ~{{BOOT0}} (in), 8 GND (power), 9 PF6 (io), 10 NC (in) hidden, 11 PF7 (io), 12 IOREF (power), 13 TMS/PA13 (io), 14 ~{{RST}} (in), 15 TCK/PA14 (io), 16 +3V3 (power), 17 PA15 (io), 18 +5V (power), 19 GND (power), 20 GND (power), 21 LD2/PB7 (io), 22 GND (power), 23 BT/PC13 (io), 24 VIN (power), 25 RTC_CRYSTAL/PC14 (io), 26 NC (in) hidden, 27 RTC_CRYSTAL/PC15 (io), 28 ETH_REF_CLK/PA0 (io), 29 PH0 (io), 30 ETH_MDIO/PA1 (io), 31 PH1 (io), 32 PA4 (io), 33 VBAT (power), 34 PB0 (io), 35 PC2 (io), 36 ETH_MDC/PC1 (io), 37 PC3 (io), 38 PC0 (io), 39 PD4 (io), 40 PD3 (io), 41 PD5 (io), 42 PG2 (io), 43 PD6 (io), 44 PG3 (io), 45 PD7 (io), 46 PE2 (io), 47 PE3 (io), 48 PE4 (io), 49 GND (power), 50 PE5 (io), 51 PF1 (io), 52 PF2 (io), 53 PF0 (io), 54 PF8 (io), 55 PD1 (io), 56 PF9 (io), 57 PD0 (io), 58 PG1 (io), 59 PG0 (io), 60 GND (power), 61 PE1 (io), 62 PE6 (io), 63 PG9 (io), 64 PG15 (io), 65 PG12 (io), 66 PG10 (io), 67 NC (in) hidden, 68 PG13/ETH_TXD0 (io), 69 STLINK_RX/PD9 (io), 70 PG11/ETH_TX_EN (io), 71 GND (power), 72 GND (power), 73 PC9 (io), 74 PC8 (io), 75 PB8 (io), 76 PC6 (io), 77 PB9 (io), 78 ETH_RXD1/PC5 (io), 79 AVDD (power), 80 U5V (power), 81 GND (power), 82 STLINK_TX/PD8 (io), 83 PA5 (io), 84 USB_DP/PA12 (io), 85 PA6 (io), 86 USB_DM/PA11 (io), 87 ETH_CRS_DV/PA7 (io), 88 PB12 (io), 89 PB6 (io), 90 PB11 (io), 91 PC7 (io), 92 GND (power), 93 USB_VBUS/PA9 (io), 94 PB2 (io), 95 USB_SOF/PA8 (io), 96 PB1 (io), 97 PB10 (io), 98 PB15 (io), 99 PB4 (io), 100 LD3/PB14 (io), 101 PB5 (io), 102 ETH_TXD1/PB13 (io), 103 SWO/PB3 (io), 104 AGND (power), 105 USB_ID/PA10 (io), 106 ETH_RXD0/PC4 (io), 107 PA2 (io), 108 PF5 (io), 109 PA3 (io), 110 PF4 (io), 111 GND (power), 112 PE8 (io), 113 PD13 (io), 114 PF10 (io), 115 PD12 (io), 116 PE7 (io), 117 PD11 (io), 118 PD14 (io), 119 PE10 (io), 120 PD15 (io), 121 PE12 (io), 122 PF14 (io), 123 PE14 (io), 124 PE9 (io), 125 PE15 (io), 126 GND (power), 127 PE13 (io), 128 PE11 (io), 129 PF13 (io), 130 PF3 (io), 131 PF12 (io), 132 PF15 (io), 133 PG14 (io), 134 PF11 (io), 135 GND (power), 136 PE0 (io), 137 PD10 (io), 138 PG8 (io), 139 PG7/USB_GPIO_IN (io), 140 PG5 (io), 141 PG4 (io), 142 PG6/USB_GPIO_OUT (io), 143 GND (power), 144 GND (power)

## NUCLEO144-F439ZI
designator *  value NUCLEO144-F439ZI
ki_keywords: STM32 Nucleo ST; ki_description: Nucleo 144 Development Board with STM32F439ZIT6 MCU, 256kB RAM, 2Mb FLASH; ki_fp_filters: ST*Morpho*Connector*144*STLink*; Footprint: Module:ST_Morpho_Connector_144_STLink; Supplier: https://www.st.com/resource/en/user_manual/dm00244518-stm32-nucleo144-boards-stmicroelectronics.pdf
footprint ST_Morpho_Connector_144_STLink
pins: 1 PC10 (io), 2 PC11 (io), 3 PC12 (io), 4 PD2 (io), 5 VDD (power), 6 E5V (power), 7 ~{{BOOT0}} (in), 8 GND (power), 9 PF6 (io), 10 NC (in) hidden, 11 PF7 (io), 12 IOREF (power), 13 TMS/PA13 (io), 14 ~{{RST}} (in), 15 TCK/PA14 (io), 16 +3V3 (power), 17 PA15 (io), 18 +5V (power), 19 GND (power), 20 GND (power), 21 LD2/PB7 (io), 22 GND (power), 23 BT/PC13 (io), 24 VIN (power), 25 RTC_CRYSTAL/PC14 (io), 26 NC (in) hidden, 27 RTC_CRYSTAL/PC15 (io), 28 ETH_REF_CLK/PA0 (io), 29 PH0 (io), 30 ETH_MDIO/PA1 (io), 31 PH1 (io), 32 PA4 (io), 33 VBAT (power), 34 PB0 (io), 35 PC2 (io), 36 ETH_MDC/PC1 (io), 37 PC3 (io), 38 PC0 (io), 39 PD4 (io), 40 PD3 (io), 41 PD5 (io), 42 PG2 (io), 43 PD6 (io), 44 PG3 (io), 45 PD7 (io), 46 PE2 (io), 47 PE3 (io), 48 PE4 (io), 49 GND (power), 50 PE5 (io), 51 PF1 (io), 52 PF2 (io), 53 PF0 (io), 54 PF8 (io), 55 PD1 (io), 56 PF9 (io), 57 PD0 (io), 58 PG1 (io), 59 PG0 (io), 60 GND (power), 61 PE1 (io), 62 PE6 (io), 63 PG9 (io), 64 PG15 (io), 65 PG12 (io), 66 PG10 (io), 67 NC (in) hidden, 68 PG13/ETH_TXD0 (io), 69 STLINK_RX/PD9 (io), 70 PG11/ETH_TX_EN (io), 71 GND (power), 72 GND (power), 73 PC9 (io), 74 PC8 (io), 75 PB8 (io), 76 PC6 (io), 77 PB9 (io), 78 ETH_RXD1/PC5 (io), 79 AVDD (power), 80 U5V (power), 81 GND (power), 82 STLINK_TX/PD8 (io), 83 PA5 (io), 84 USB_DP/PA12 (io), 85 PA6 (io), 86 USB_DM/PA11 (io), 87 ETH_CRS_DV/PA7 (io), 88 PB12 (io), 89 PB6 (io), 90 PB11 (io), 91 PC7 (io), 92 GND (power), 93 USB_VBUS/PA9 (io), 94 PB2 (io), 95 USB_SOF/PA8 (io), 96 PB1 (io), 97 PB10 (io), 98 PB15 (io), 99 PB4 (io), 100 LD3/PB14 (io), 101 PB5 (io), 102 ETH_TXD1/PB13 (io), 103 SWO/PB3 (io), 104 AGND (power), 105 USB_ID/PA10 (io), 106 ETH_RXD0/PC4 (io), 107 PA2 (io), 108 PF5 (io), 109 PA3 (io), 110 PF4 (io), 111 GND (power), 112 PE8 (io), 113 PD13 (io), 114 PF10 (io), 115 PD12 (io), 116 PE7 (io), 117 PD11 (io), 118 PD14 (io), 119 PE10 (io), 120 PD15 (io), 121 PE12 (io), 122 PF14 (io), 123 PE14 (io), 124 PE9 (io), 125 PE15 (io), 126 GND (power), 127 PE13 (io), 128 PE11 (io), 129 PF13 (io), 130 PF3 (io), 131 PF12 (io), 132 PF15 (io), 133 PG14 (io), 134 PF11 (io), 135 GND (power), 136 PE0 (io), 137 PD10 (io), 138 PG8 (io), 139 PG7/USB_GPIO_IN (io), 140 PG5 (io), 141 PG4 (io), 142 PG6/USB_GPIO_OUT (io), 143 GND (power), 144 GND (power)

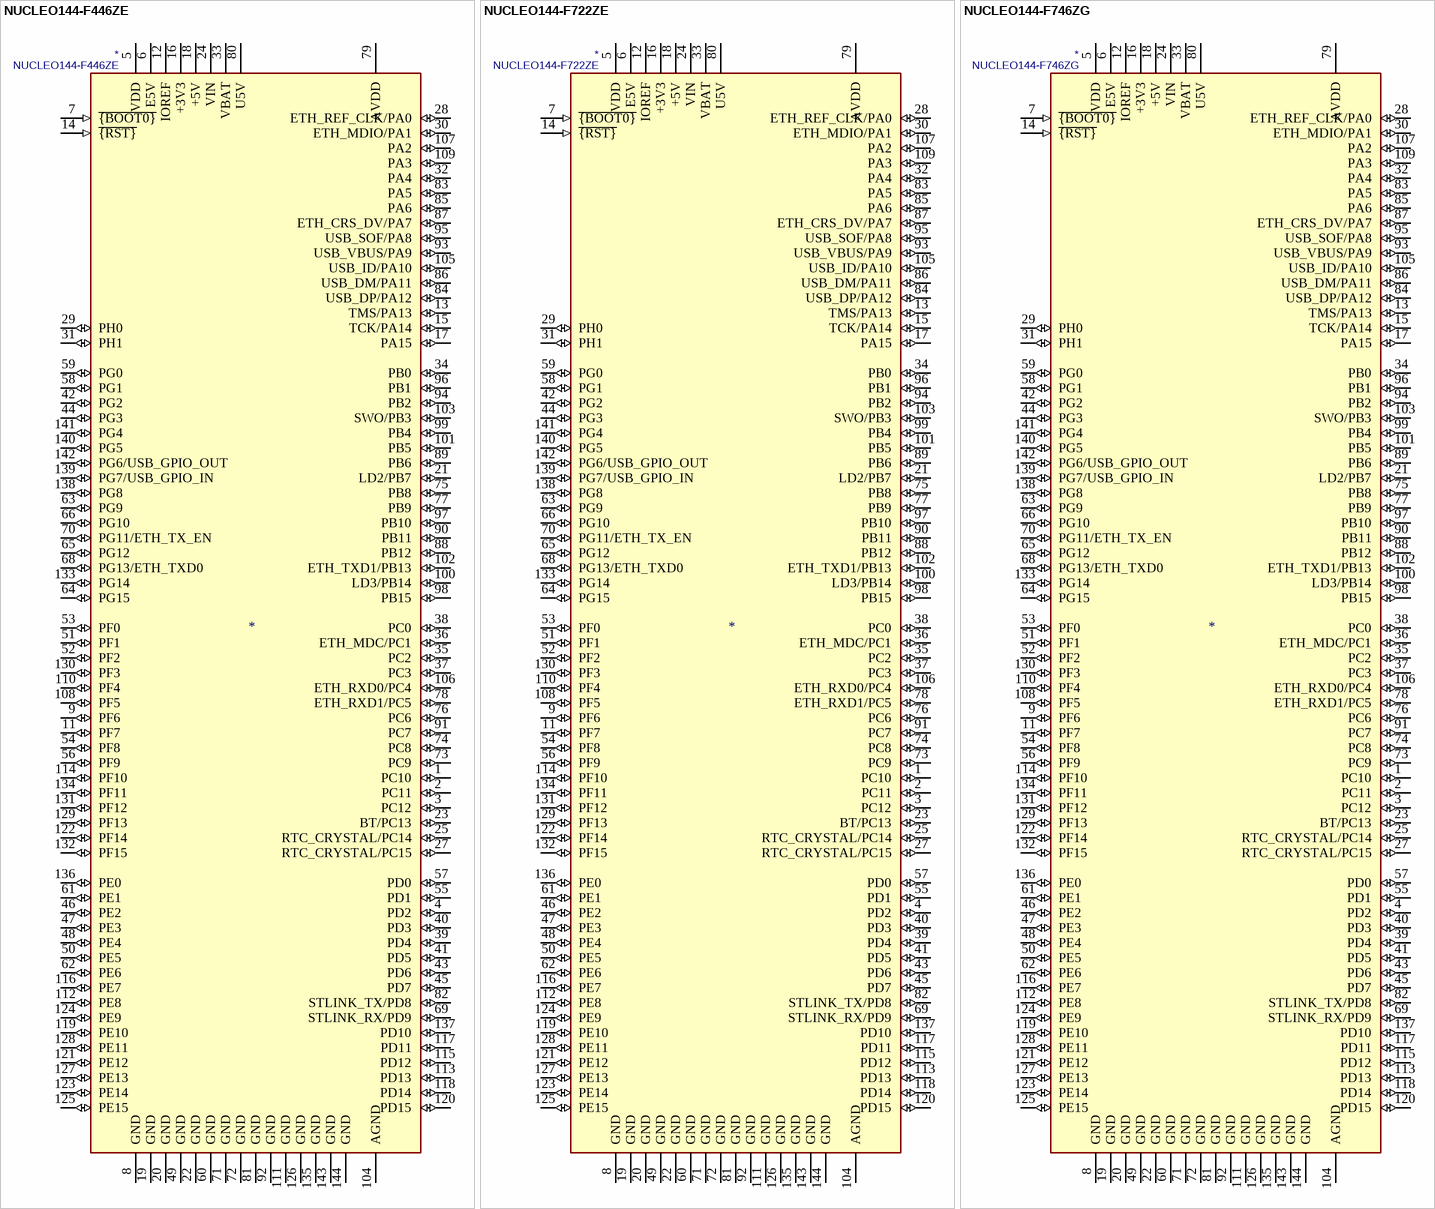
[diagram p4: symbols NUCLEO144-F446ZE to NUCLEO144-F746ZG]

## NUCLEO144-F446ZE
designator *  value NUCLEO144-F446ZE
ki_keywords: STM32 Nucleo ST; ki_description: Nucleo 144 Development Board with STM32F446ZET6 MCU, 128kB RAM, 512Kb FLASH; ki_fp_filters: ST*Morpho*Connector*144*STLink*; Footprint: Module:ST_Morpho_Connector_144_STLink; Supplier: https://www.st.com/resource/en/user_manual/dm00244518-stm32-nucleo144-boards-stmicroelectronics.pdf
footprint ST_Morpho_Connector_144_STLink
pins: 1 PC10 (io), 2 PC11 (io), 3 PC12 (io), 4 PD2 (io), 5 VDD (power), 6 E5V (power), 7 ~{{BOOT0}} (in), 8 GND (power), 9 PF6 (io), 10 NC (in) hidden, 11 PF7 (io), 12 IOREF (power), 13 TMS/PA13 (io), 14 ~{{RST}} (in), 15 TCK/PA14 (io), 16 +3V3 (power), 17 PA15 (io), 18 +5V (power), 19 GND (power), 20 GND (power), 21 LD2/PB7 (io), 22 GND (power), 23 BT/PC13 (io), 24 VIN (power), 25 RTC_CRYSTAL/PC14 (io), 26 NC (in) hidden, 27 RTC_CRYSTAL/PC15 (io), 28 ETH_REF_CLK/PA0 (io), 29 PH0 (io), 30 ETH_MDIO/PA1 (io), 31 PH1 (io), 32 PA4 (io), 33 VBAT (power), 34 PB0 (io), 35 PC2 (io), 36 ETH_MDC/PC1 (io), 37 PC3 (io), 38 PC0 (io), 39 PD4 (io), 40 PD3 (io), 41 PD5 (io), 42 PG2 (io), 43 PD6 (io), 44 PG3 (io), 45 PD7 (io), 46 PE2 (io), 47 PE3 (io), 48 PE4 (io), 49 GND (power), 50 PE5 (io), 51 PF1 (io), 52 PF2 (io), 53 PF0 (io), 54 PF8 (io), 55 PD1 (io), 56 PF9 (io), 57 PD0 (io), 58 PG1 (io), 59 PG0 (io), 60 GND (power), 61 PE1 (io), 62 PE6 (io), 63 PG9 (io), 64 PG15 (io), 65 PG12 (io), 66 PG10 (io), 67 NC (in) hidden, 68 PG13/ETH_TXD0 (io), 69 STLINK_RX/PD9 (io), 70 PG11/ETH_TX_EN (io), 71 GND (power), 72 GND (power), 73 PC9 (io), 74 PC8 (io), 75 PB8 (io), 76 PC6 (io), 77 PB9 (io), 78 ETH_RXD1/PC5 (io), 79 AVDD (power), 80 U5V (power), 81 GND (power), 82 STLINK_TX/PD8 (io), 83 PA5 (io), 84 USB_DP/PA12 (io), 85 PA6 (io), 86 USB_DM/PA11 (io), 87 ETH_CRS_DV/PA7 (io), 88 PB12 (io), 89 PB6 (io), 90 PB11 (io), 91 PC7 (io), 92 GND (power), 93 USB_VBUS/PA9 (io), 94 PB2 (io), 95 USB_SOF/PA8 (io), 96 PB1 (io), 97 PB10 (io), 98 PB15 (io), 99 PB4 (io), 100 LD3/PB14 (io), 101 PB5 (io), 102 ETH_TXD1/PB13 (io), 103 SWO/PB3 (io), 104 AGND (power), 105 USB_ID/PA10 (io), 106 ETH_RXD0/PC4 (io), 107 PA2 (io), 108 PF5 (io), 109 PA3 (io), 110 PF4 (io), 111 GND (power), 112 PE8 (io), 113 PD13 (io), 114 PF10 (io), 115 PD12 (io), 116 PE7 (io), 117 PD11 (io), 118 PD14 (io), 119 PE10 (io), 120 PD15 (io), 121 PE12 (io), 122 PF14 (io), 123 PE14 (io), 124 PE9 (io), 125 PE15 (io), 126 GND (power), 127 PE13 (io), 128 PE11 (io), 129 PF13 (io), 130 PF3 (io), 131 PF12 (io), 132 PF15 (io), 133 PG14 (io), 134 PF11 (io), 135 GND (power), 136 PE0 (io), 137 PD10 (io), 138 PG8 (io), 139 PG7/USB_GPIO_IN (io), 140 PG5 (io), 141 PG4 (io), 142 PG6/USB_GPIO_OUT (io), 143 GND (power), 144 GND (power)

## NUCLEO144-F722ZE
designator *  value NUCLEO144-F722ZE
ki_keywords: STM32 Nucleo ST; ki_description: Nucleo 144 Development Board with STM32F722ZET6 MCU, 256kB RAM, 512Kb FLASH; ki_fp_filters: ST*Morpho*Connector*144*STLink*; Footprint: Module:ST_Morpho_Connector_144_STLink; Supplier: https://www.st.com/resource/en/user_manual/dm00244518-stm32-nucleo144-boards-stmicroelectronics.pdf
footprint ST_Morpho_Connector_144_STLink
pins: 1 PC10 (io), 2 PC11 (io), 3 PC12 (io), 4 PD2 (io), 5 VDD (power), 6 E5V (power), 7 ~{{BOOT0}} (in), 8 GND (power), 9 PF6 (io), 10 NC (in) hidden, 11 PF7 (io), 12 IOREF (power), 13 TMS/PA13 (io), 14 ~{{RST}} (in), 15 TCK/PA14 (io), 16 +3V3 (power), 17 PA15 (io), 18 +5V (power), 19 GND (power), 20 GND (power), 21 LD2/PB7 (io), 22 GND (power), 23 BT/PC13 (io), 24 VIN (power), 25 RTC_CRYSTAL/PC14 (io), 26 NC (in) hidden, 27 RTC_CRYSTAL/PC15 (io), 28 ETH_REF_CLK/PA0 (io), 29 PH0 (io), 30 ETH_MDIO/PA1 (io), 31 PH1 (io), 32 PA4 (io), 33 VBAT (power), 34 PB0 (io), 35 PC2 (io), 36 ETH_MDC/PC1 (io), 37 PC3 (io), 38 PC0 (io), 39 PD4 (io), 40 PD3 (io), 41 PD5 (io), 42 PG2 (io), 43 PD6 (io), 44 PG3 (io), 45 PD7 (io), 46 PE2 (io), 47 PE3 (io), 48 PE4 (io), 49 GND (power), 50 PE5 (io), 51 PF1 (io), 52 PF2 (io), 53 PF0 (io), 54 PF8 (io), 55 PD1 (io), 56 PF9 (io), 57 PD0 (io), 58 PG1 (io), 59 PG0 (io), 60 GND (power), 61 PE1 (io), 62 PE6 (io), 63 PG9 (io), 64 PG15 (io), 65 PG12 (io), 66 PG10 (io), 67 NC (in) hidden, 68 PG13/ETH_TXD0 (io), 69 STLINK_RX/PD9 (io), 70 PG11/ETH_TX_EN (io), 71 GND (power), 72 GND (power), 73 PC9 (io), 74 PC8 (io), 75 PB8 (io), 76 PC6 (io), 77 PB9 (io), 78 ETH_RXD1/PC5 (io), 79 AVDD (power), 80 U5V (power), 81 GND (power), 82 STLINK_TX/PD8 (io), 83 PA5 (io), 84 USB_DP/PA12 (io), 85 PA6 (io), 86 USB_DM/PA11 (io), 87 ETH_CRS_DV/PA7 (io), 88 PB12 (io), 89 PB6 (io), 90 PB11 (io), 91 PC7 (io), 92 GND (power), 93 USB_VBUS/PA9 (io), 94 PB2 (io), 95 USB_SOF/PA8 (io), 96 PB1 (io), 97 PB10 (io), 98 PB15 (io), 99 PB4 (io), 100 LD3/PB14 (io), 101 PB5 (io), 102 ETH_TXD1/PB13 (io), 103 SWO/PB3 (io), 104 AGND (power), 105 USB_ID/PA10 (io), 106 ETH_RXD0/PC4 (io), 107 PA2 (io), 108 PF5 (io), 109 PA3 (io), 110 PF4 (io), 111 GND (power), 112 PE8 (io), 113 PD13 (io), 114 PF10 (io), 115 PD12 (io), 116 PE7 (io), 117 PD11 (io), 118 PD14 (io), 119 PE10 (io), 120 PD15 (io), 121 PE12 (io), 122 PF14 (io), 123 PE14 (io), 124 PE9 (io), 125 PE15 (io), 126 GND (power), 127 PE13 (io), 128 PE11 (io), 129 PF13 (io), 130 PF3 (io), 131 PF12 (io), 132 PF15 (io), 133 PG14 (io), 134 PF11 (io), 135 GND (power), 136 PE0 (io), 137 PD10 (io), 138 PG8 (io), 139 PG7/USB_GPIO_IN (io), 140 PG5 (io), 141 PG4 (io), 142 PG6/USB_GPIO_OUT (io), 143 GND (power), 144 GND (power)

## NUCLEO144-F746ZG
designator *  value NUCLEO144-F746ZG
ki_keywords: STM32 Nucleo ST; ki_description: Nucleo 144 Development Board with STM32F746ZG MCU, 256kB RAM, 1Mb FLASH; ki_fp_filters: ST*Morpho*Connector*144*STLink*; Footprint: Module:ST_Morpho_Connector_144_STLink; Supplier: https://www.st.com/resource/en/user_manual/dm00244518-stm32-nucleo144-boards-stmicroelectronics.pdf
footprint ST_Morpho_Connector_144_STLink
pins: 1 PC10 (io), 2 PC11 (io), 3 PC12 (io), 4 PD2 (io), 5 VDD (power), 6 E5V (power), 7 ~{{BOOT0}} (in), 8 GND (power), 9 PF6 (io), 10 NC (in) hidden, 11 PF7 (io), 12 IOREF (power), 13 TMS/PA13 (io), 14 ~{{RST}} (in), 15 TCK/PA14 (io), 16 +3V3 (power), 17 PA15 (io), 18 +5V (power), 19 GND (power), 20 GND (power), 21 LD2/PB7 (io), 22 GND (power), 23 BT/PC13 (io), 24 VIN (power), 25 RTC_CRYSTAL/PC14 (io), 26 NC (in) hidden, 27 RTC_CRYSTAL/PC15 (io), 28 ETH_REF_CLK/PA0 (io), 29 PH0 (io), 30 ETH_MDIO/PA1 (io), 31 PH1 (io), 32 PA4 (io), 33 VBAT (power), 34 PB0 (io), 35 PC2 (io), 36 ETH_MDC/PC1 (io), 37 PC3 (io), 38 PC0 (io), 39 PD4 (io), 40 PD3 (io), 41 PD5 (io), 42 PG2 (io), 43 PD6 (io), 44 PG3 (io), 45 PD7 (io), 46 PE2 (io), 47 PE3 (io), 48 PE4 (io), 49 GND (power), 50 PE5 (io), 51 PF1 (io), 52 PF2 (io), 53 PF0 (io), 54 PF8 (io), 55 PD1 (io), 56 PF9 (io), 57 PD0 (io), 58 PG1 (io), 59 PG0 (io), 60 GND (power), 61 PE1 (io), 62 PE6 (io), 63 PG9 (io), 64 PG15 (io), 65 PG12 (io), 66 PG10 (io), 67 NC (in) hidden, 68 PG13/ETH_TXD0 (io), 69 STLINK_RX/PD9 (io), 70 PG11/ETH_TX_EN (io), 71 GND (power), 72 GND (power), 73 PC9 (io), 74 PC8 (io), 75 PB8 (io), 76 PC6 (io), 77 PB9 (io), 78 ETH_RXD1/PC5 (io), 79 AVDD (power), 80 U5V (power), 81 GND (power), 82 STLINK_TX/PD8 (io), 83 PA5 (io), 84 USB_DP/PA12 (io), 85 PA6 (io), 86 USB_DM/PA11 (io), 87 ETH_CRS_DV/PA7 (io), 88 PB12 (io), 89 PB6 (io), 90 PB11 (io), 91 PC7 (io), 92 GND (power), 93 USB_VBUS/PA9 (io), 94 PB2 (io), 95 USB_SOF/PA8 (io), 96 PB1 (io), 97 PB10 (io), 98 PB15 (io), 99 PB4 (io), 100 LD3/PB14 (io), 101 PB5 (io), 102 ETH_TXD1/PB13 (io), 103 SWO/PB3 (io), 104 AGND (power), 105 USB_ID/PA10 (io), 106 ETH_RXD0/PC4 (io), 107 PA2 (io), 108 PF5 (io), 109 PA3 (io), 110 PF4 (io), 111 GND (power), 112 PE8 (io), 113 PD13 (io), 114 PF10 (io), 115 PD12 (io), 116 PE7 (io), 117 PD11 (io), 118 PD14 (io), 119 PE10 (io), 120 PD15 (io), 121 PE12 (io), 122 PF14 (io), 123 PE14 (io), 124 PE9 (io), 125 PE15 (io), 126 GND (power), 127 PE13 (io), 128 PE11 (io), 129 PF13 (io), 130 PF3 (io), 131 PF12 (io), 132 PF15 (io), 133 PG14 (io), 134 PF11 (io), 135 GND (power), 136 PE0 (io), 137 PD10 (io), 138 PG8 (io), 139 PG7/USB_GPIO_IN (io), 140 PG5 (io), 141 PG4 (io), 142 PG6/USB_GPIO_OUT (io), 143 GND (power), 144 GND (power)

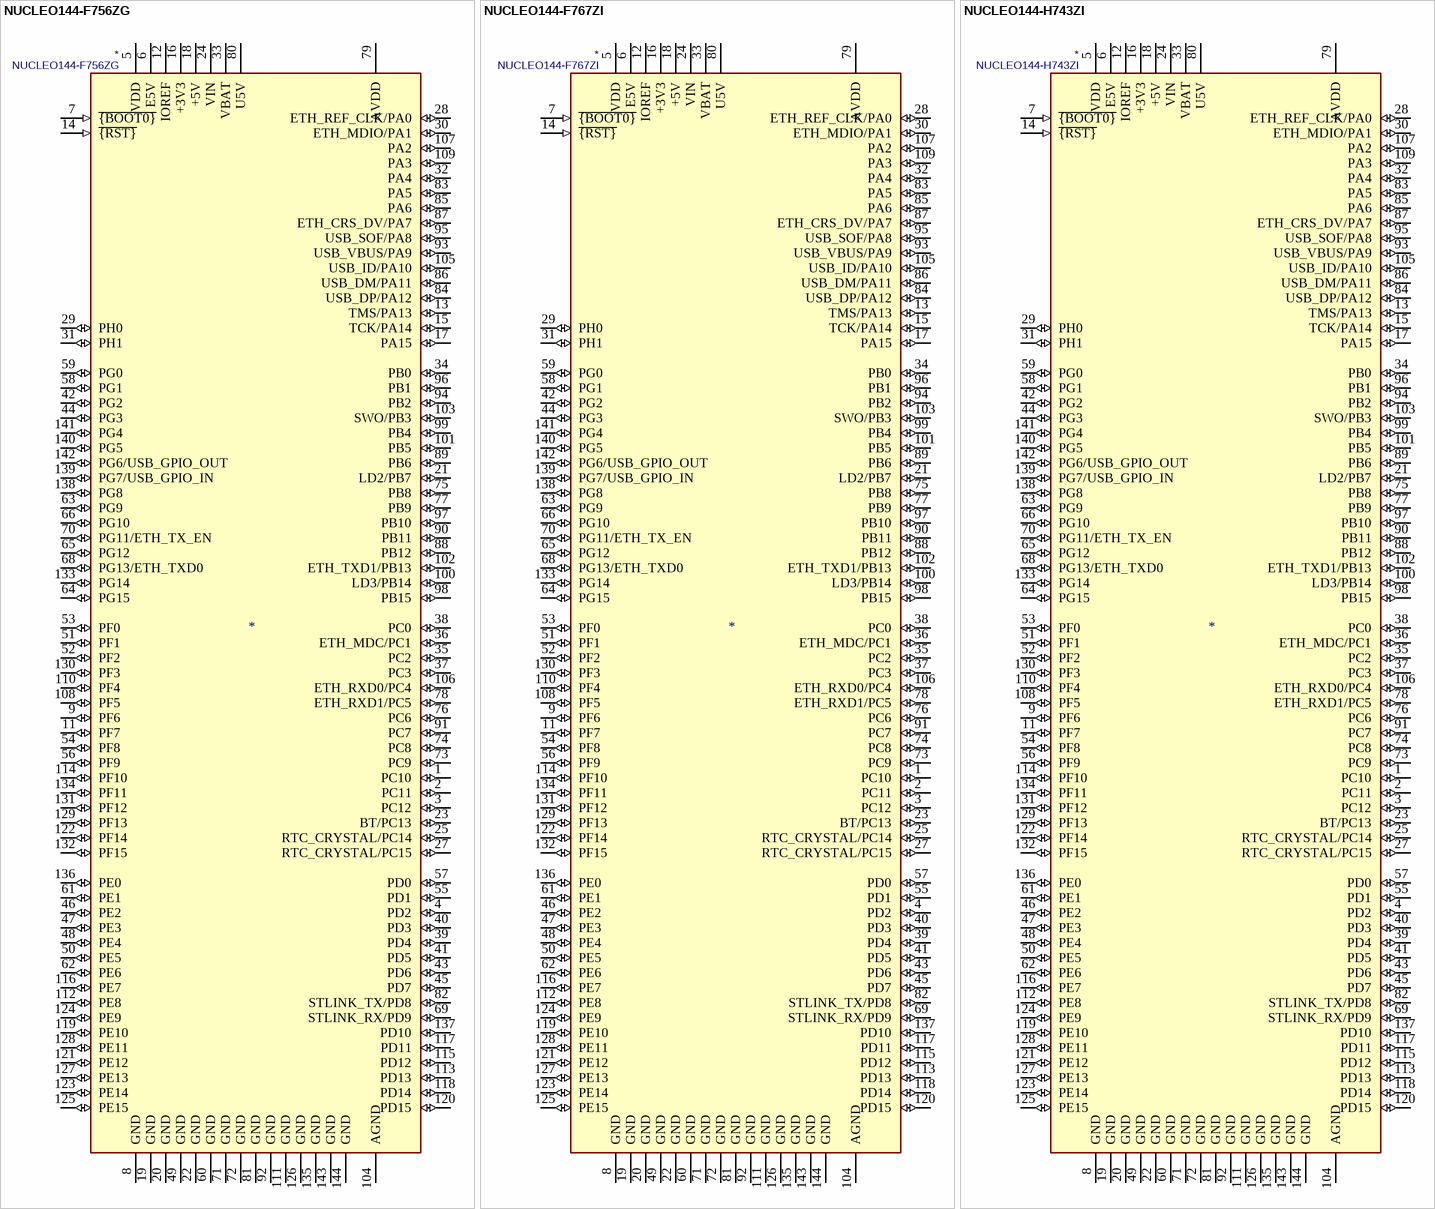
[diagram p5: symbols NUCLEO144-F756ZG to NUCLEO144-H743ZI]

## NUCLEO144-F756ZG
designator *  value NUCLEO144-F756ZG
ki_keywords: STM32 Nucleo ST; ki_description: Nucleo 144 Development Board with STM32F756ZGT6 MCU, 320kB RAM, 1Mb FLASH; ki_fp_filters: ST*Morpho*Connector*144*STLink*; Footprint: Module:ST_Morpho_Connector_144_STLink; Supplier: https://www.st.com/resource/en/user_manual/dm00244518-stm32-nucleo144-boards-stmicroelectronics.pdf
footprint ST_Morpho_Connector_144_STLink
pins: 1 PC10 (io), 2 PC11 (io), 3 PC12 (io), 4 PD2 (io), 5 VDD (power), 6 E5V (power), 7 ~{{BOOT0}} (in), 8 GND (power), 9 PF6 (io), 10 NC (in) hidden, 11 PF7 (io), 12 IOREF (power), 13 TMS/PA13 (io), 14 ~{{RST}} (in), 15 TCK/PA14 (io), 16 +3V3 (power), 17 PA15 (io), 18 +5V (power), 19 GND (power), 20 GND (power), 21 LD2/PB7 (io), 22 GND (power), 23 BT/PC13 (io), 24 VIN (power), 25 RTC_CRYSTAL/PC14 (io), 26 NC (in) hidden, 27 RTC_CRYSTAL/PC15 (io), 28 ETH_REF_CLK/PA0 (io), 29 PH0 (io), 30 ETH_MDIO/PA1 (io), 31 PH1 (io), 32 PA4 (io), 33 VBAT (power), 34 PB0 (io), 35 PC2 (io), 36 ETH_MDC/PC1 (io), 37 PC3 (io), 38 PC0 (io), 39 PD4 (io), 40 PD3 (io), 41 PD5 (io), 42 PG2 (io), 43 PD6 (io), 44 PG3 (io), 45 PD7 (io), 46 PE2 (io), 47 PE3 (io), 48 PE4 (io), 49 GND (power), 50 PE5 (io), 51 PF1 (io), 52 PF2 (io), 53 PF0 (io), 54 PF8 (io), 55 PD1 (io), 56 PF9 (io), 57 PD0 (io), 58 PG1 (io), 59 PG0 (io), 60 GND (power), 61 PE1 (io), 62 PE6 (io), 63 PG9 (io), 64 PG15 (io), 65 PG12 (io), 66 PG10 (io), 67 NC (in) hidden, 68 PG13/ETH_TXD0 (io), 69 STLINK_RX/PD9 (io), 70 PG11/ETH_TX_EN (io), 71 GND (power), 72 GND (power), 73 PC9 (io), 74 PC8 (io), 75 PB8 (io), 76 PC6 (io), 77 PB9 (io), 78 ETH_RXD1/PC5 (io), 79 AVDD (power), 80 U5V (power), 81 GND (power), 82 STLINK_TX/PD8 (io), 83 PA5 (io), 84 USB_DP/PA12 (io), 85 PA6 (io), 86 USB_DM/PA11 (io), 87 ETH_CRS_DV/PA7 (io), 88 PB12 (io), 89 PB6 (io), 90 PB11 (io), 91 PC7 (io), 92 GND (power), 93 USB_VBUS/PA9 (io), 94 PB2 (io), 95 USB_SOF/PA8 (io), 96 PB1 (io), 97 PB10 (io), 98 PB15 (io), 99 PB4 (io), 100 LD3/PB14 (io), 101 PB5 (io), 102 ETH_TXD1/PB13 (io), 103 SWO/PB3 (io), 104 AGND (power), 105 USB_ID/PA10 (io), 106 ETH_RXD0/PC4 (io), 107 PA2 (io), 108 PF5 (io), 109 PA3 (io), 110 PF4 (io), 111 GND (power), 112 PE8 (io), 113 PD13 (io), 114 PF10 (io), 115 PD12 (io), 116 PE7 (io), 117 PD11 (io), 118 PD14 (io), 119 PE10 (io), 120 PD15 (io), 121 PE12 (io), 122 PF14 (io), 123 PE14 (io), 124 PE9 (io), 125 PE15 (io), 126 GND (power), 127 PE13 (io), 128 PE11 (io), 129 PF13 (io), 130 PF3 (io), 131 PF12 (io), 132 PF15 (io), 133 PG14 (io), 134 PF11 (io), 135 GND (power), 136 PE0 (io), 137 PD10 (io), 138 PG8 (io), 139 PG7/USB_GPIO_IN (io), 140 PG5 (io), 141 PG4 (io), 142 PG6/USB_GPIO_OUT (io), 143 GND (power), 144 GND (power)